# Altium integrated library NXP_60_26022015.IntLib: 1306 symbols (part 18 of 28)
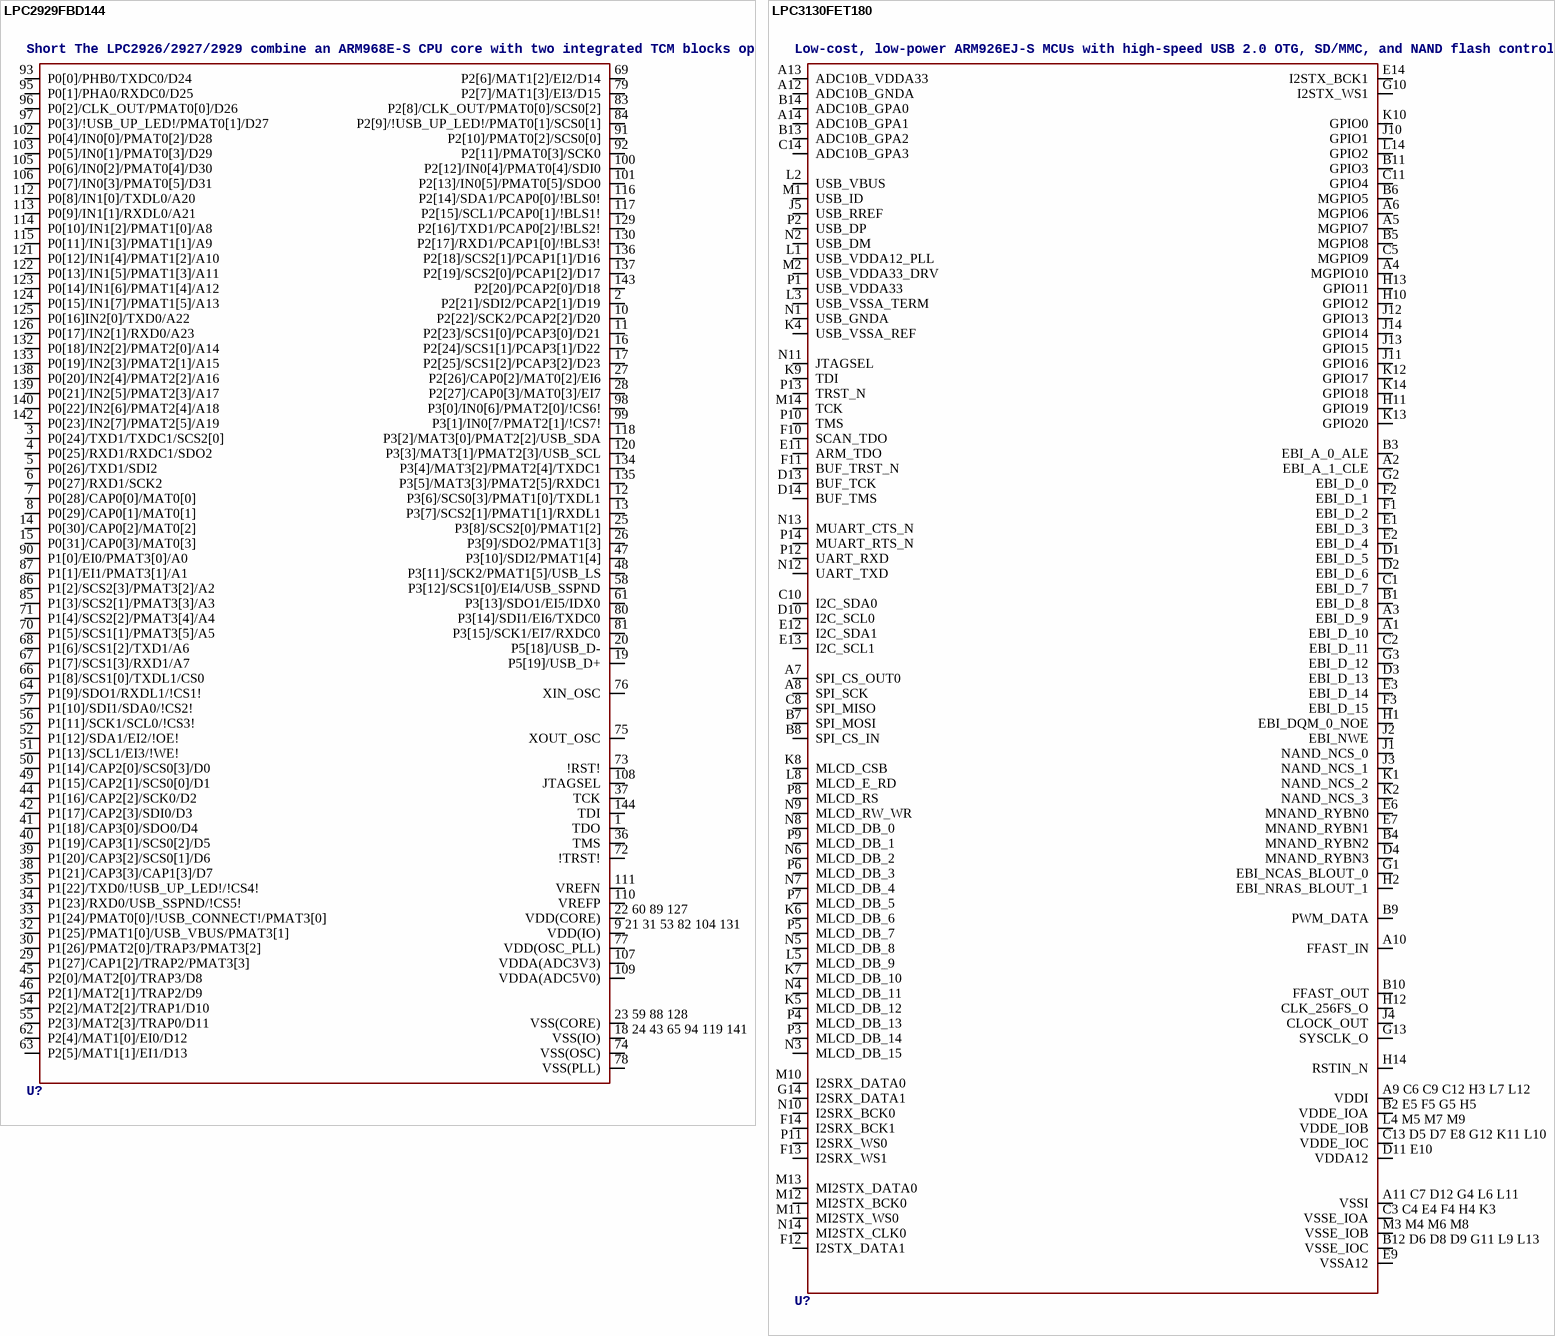
[diagram p202: symbols LPC2929FBD144 to LPC3130FET180]

## LPC2929FBD144
designator U?, comment Short The LPC2926/2927/2929 combine an ARM968E-S CPU core with two integrated TCM blocks operating at frequencies of up to 125 MHz, Full-speed USB 2.0 OTG and device controller, CAN and LIN, 56 kB SRAM, up to 768 kB flash memory, external memory interface, three 10-bit ADCs, and multiple serial and parallel interfaces in a single chip targeted at consumer, industrial and communication markets. To optimize system power consumption, the LPC2926/2927/2929 has a very flexible Clock Generation Unit (CGU) that provides dynamic clock gating and scaling.    AAL Eindhoven MK
FLASH: 768kB; SRAM: 56kB + 2 × 32kB TCM
footprint SOT486-1
pins: 1 TDO, 2 P2[21]/SDI2/PCAP2[1]/D19, 3 P0[24]/TXD1/TXDC1/SCS2[0], 4 P0[25]/RXD1/RXDC1/SDO2, 5 P0[26]/TXD1/SDI2, 6 P0[27]/RXD1/SCK2, 7 P0[28]/CAP0[0]/MAT0[0], 8 P0[29]/CAP0[1]/MAT0[1], 9 21 31 53 82 104 131 VDD(IO), 10 P2[22]/SCK2/PCAP2[2]/D20, 11 P2[23]/SCS1[0]/PCAP3[0]/D21, 12 P3[6]/SCS0[3]/PMAT1[0]/TXDL1, 13 P3[7]/SCS2[1]/PMAT1[1]/RXDL1, 14 P0[30]/CAP0[2]/MAT0[2], 15 P0[31]/CAP0[3]/MAT0[3], 16 P2[24]/SCS1[1]/PCAP3[1]/D22, 17 P2[25]/SCS1[2]/PCAP3[2]/D23, 18 24 43 65 94 119 141 VSS(IO), 19 P5[19]/USB_D+, 20 P5[18]/USB_D-, 22 60 89 127 VDD(CORE), 23 59 88 128 VSS(CORE), 25 P3[8]/SCS2[0]/PMAT1[2], 26 P3[9]/SDO2/PMAT1[3], 27 P2[26]/CAP0[2]/MAT0[2]/EI6, 28 P2[27]/CAP0[3]/MAT0[3]/EI7, 29 P1[27]/CAP1[2]/TRAP2/PMAT3[3], 30 P1[26]/PMAT2[0]/TRAP3/PMAT3[2], 32 P1[25]/PMAT1[0]/USB_VBUS/PMAT3[1], 33 P1[24]/PMAT0[0]/!USB_CONNECT!/PMAT3[0], 34 P1[23]/RXD0/USB_SSPND/!CS5!, 35 P1[22]/TXD0/!USB_UP_LED!/!CS4!, 36 TMS, 37 TCK, 38 P1[21]/CAP3[3]/CAP1[3]/D7, 39 P1[20]/CAP3[2]/SCS0[1]/D6, 40 P1[19]/CAP3[1]/SCS0[2]/D5, 41 P1[18]/CAP3[0]/SDO0/D4, 42 P1[17]/CAP2[3]/SDI0/D3, 44 P1[16]/CAP2[2]/SCK0/D2, 45 P2[0]/MAT2[0]/TRAP3/D8, 46 P2[1]/MAT2[1]/TRAP2/D9, 47 P3[10]/SDI2/PMAT1[4], 48 P3[11]/SCK2/PMAT1[5]/USB_LS, 49 P1[15]/CAP2[1]/SCS0[0]/D1, 50 P1[14]/CAP2[0]/SCS0[3]/D0, 51 P1[13]/SCL1/EI3/!WE!, 52 P1[12]/SDA1/EI2/!OE!, 54 P2[2]/MAT2[2]/TRAP1/D10, 55 P2[3]/MAT2[3]/TRAP0/D11, 56 P1[11]/SCK1/SCL0/!CS3!, 57 P1[10]/SDI1/SDA0/!CS2!, 58 P3[12]/SCS1[0]/EI4/USB_SSPND, 61 P3[13]/SDO1/EI5/IDX0, 62 P2[4]/MAT1[0]/EI0/D12, 63 P2[5]/MAT1[1]/EI1/D13, 64 P1[9]/SDO1/RXDL1/!CS1!, 66 P1[8]/SCS1[0]/TXDL1/CS0, 67 P1[7]/SCS1[3]/RXD1/A7, 68 P1[6]/SCS1[2]/TXD1/A6, 69 P2[6]/MAT1[2]/EI2/D14, 70 P1[5]/SCS1[1]/PMAT3[5]/A5, 71 P1[4]/SCS2[2]/PMAT3[4]/A4, 72 !TRST!, 73 !RST!, 74 VSS(OSC), 75 XOUT_OSC, 76 XIN_OSC, 77 VDD(OSC_PLL), 78 VSS(PLL), 79 P2[7]/MAT1[3]/EI3/D15, 80 P3[14]/SDI1/EI6/TXDC0, 81 P3[15]/SCK1/EI7/RXDC0, 83 P2[8]/CLK_OUT/PMAT0[0]/SCS0[2], 84 P2[9]/!USB_UP_LED!/PMAT0[1]/SCS0[1], 85 P1[3]/SCS2[1]/PMAT3[3]/A3, 86 P1[2]/SCS2[3]/PMAT3[2]/A2, 87 P1[1]/EI1/PMAT3[1]/A1, 90 P1[0]/EI0/PMAT3[0]/A0, 91 P2[10]/PMAT0[2]/SCS0[0], 92 P2[11]/PMAT0[3]/SCK0, 93 P0[0]/PHB0/TXDC0/D24, 95 P0[1]/PHA0/RXDC0/D25, 96 P0[2]/CLK_OUT/PMAT0[0]/D26, 97 P0[3]/!USB_UP_LED!/PMAT0[1]/D27, 98 P3[0]/IN0[6]/PMAT2[0]/!CS6!, 99 P3[1]/IN0[7/PMAT2[1]/!CS7!, 100 P2[12]/IN0[4]/PMAT0[4]/SDI0, 101 P2[13]/IN0[5]/PMAT0[5]/SDO0, 102 P0[4]/IN0[0]/PMAT0[2]/D28, 103 P0[5]/IN0[1]/PMAT0[3]/D29, 105 P0[6]/IN0[2]/PMAT0[4]/D30, 106 P0[7]/IN0[3]/PMAT0[5]/D31, 107 VDDA(ADC3V3), 108 JTAGSEL, 109 VDDA(ADC5V0), 110 VREFP, 111 VREFN, 112 P0[8]/IN1[0]/TXDL0/A20, 113 P0[9]/IN1[1]/RXDL0/A21, 114 P0[10]/IN1[2]/PMAT1[0]/A8, 115 P0[11]/IN1[3]/PMAT1[1]/A9, 116 P2[14]/SDA1/PCAP0[0]/!BLS0!, 117 P2[15]/SCL1/PCAP0[1]/!BLS1!, 118 P3[2]/MAT3[0]/PMAT2[2]/USB_SDA, 120 P3[3]/MAT3[1]/PMAT2[3]/USB_SCL, 121 P0[12]/IN1[4]/PMAT1[2]/A10, 122 P0[13]/IN1[5]/PMAT1[3]/A11, 123 P0[14]/IN1[6]/PMAT1[4]/A12, 124 P0[15]/IN1[7]/PMAT1[5]/A13, 125 P0[16]IN2[0]/TXD0/A22, 126 P0[17]/IN2[1]/RXD0/A23, 129 P2[16]/TXD1/PCAP0[2]/!BLS2!, 130 P2[17]/RXD1/PCAP1[0]/!BLS3!, 132 P0[18]/IN2[2]/PMAT2[0]/A14, 133 P0[19]/IN2[3]/PMAT2[1]/A15, 134 P3[4]/MAT3[2]/PMAT2[4]/TXDC1, 135 P3[5]/MAT3[3]/PMAT2[5]/RXDC1, 136 P2[18]/SCS2[1]/PCAP1[1]/D16, 137 P2[19]/SCS2[0]/PCAP1[2]/D17, 138 P0[20]/IN2[4]/PMAT2[2]/A16, 139 P0[21]/IN2[5]/PMAT2[3]/A17, 140 P0[22]/IN2[6]/PMAT2[4]/A18, 142 P0[23]/IN2[7]/PMAT2[5]/A19, 143 P2[20]/PCAP2[0]/D18, 144 TDI

## LPC3130FET180
designator U?, comment Low-cost, low-power ARM926EJ-S MCUs with high-speed USB 2.0 OTG, SD/MMC, and NAND flash controller The NXP LPC3130/3131 combine an 180 MHz ARM926EJ-S CPU core, high-speed USB 2.0 On-The-Go (OTG), up to 192 KB SRAM, NAND flash controller, flexible external bus interface, four channel 10-bit ADC, and a myriad of serial and parallel interfaces in a single chip targeted at consumer, industrial, medical, and communication markets. To optimize system power consumption, the LPC3130/3131 have multiple power domains and a very flexible Clock Generation Unit (CGU) that provides dynamic clock gating and scaling.    AAL Eindhoven MK
SRAM: 96kB
footprint SOT570-2
pins: A1 EBI_D_10, A2 EBI_A_1_CLE, A3 EBI_D_9, A4 MGPIO10, A5 MGPIO7, A6 MGPIO6, A7 SPI_CS_OUT0, A8 SPI_SCK, A9 C6 C9 C12 H3 L7 L12 VDDI, A10 FFAST_IN, A11 C7 D12 G4 L6 L11 VSSI, A12 ADC10B_GNDA, A13 ADC10B_VDDA33, A14 ADC10B_GPA1, B1 EBI_D_8, B2 E5 F5 G5 H5 VDDE_IOA, B3 EBI_A_0_ALE, B4 MNAND_RYBN2, B5 MGPIO8, B6 MGPIO5, B7 SPI_MOSI, B8 SPI_CS_IN, B9 PWM_DATA, B10 FFAST_OUT, B11 GPIO3, B12 D6 D8 D9 G11 L9 L13 VSSE_IOC, B13 ADC10B_GPA2, B14 ADC10B_GPA0, C1 EBI_D_7, C2 EBI_D_11, C3 C4 E4 F4 H4 K3 VSSE_IOA, C5 MGPIO9, C8 SPI_MISO, C10 I2C_SDA0, C11 GPIO4, C13 D5 D7 E8 G12 K11 L10 VDDE_IOC, C14 ADC10B_GPA3, D1 EBI_D_5, D2 EBI_D_6, D3 EBI_D_13, D4 MNAND_RYBN3, D10 I2C_SCL0, D11 E10 VDDA12, D13 BUF_TCK, D14 BUF_TMS, E1 EBI_D_3, E2 EBI_D_4, E3 EBI_D_14, E6 MNAND_RYBN0, E7 MNAND_RYBN1, E9 VSSA12, E11 ARM_TDO, E12 I2C_SDA1, E13 I2C_SCL1, E14 I2STX_BCK1, F1 EBI_D_2, F2 EBI_D_1, F3 EBI_D_15, F10 SCAN_TDO, F11 BUF_TRST_N, F12 I2STX_DATA1, F13 I2SRX_WS1, F14 I2SRX_BCK1, G1 EBI_NCAS_BLOUT_0, G2 EBI_D_0, G3 EBI_D_12, G10 I2STX_WS1, G13 SYSCLK_O, G14 I2SRX_DATA1, H1 EBI_DQM_0_NOE, H2 EBI_NRAS_BLOUT_1, H10 GPIO12, H11 GPIO19, H12 CLK_256FS_O, H13 GPIO11, H14 RSTIN_N, J1 NAND_NCS_0, J2 EBI_NWE, J3 NAND_NCS_1, J4 CLOCK_OUT, J5 USB_RREF, J10 GPIO1, J11 GPIO16, J12 GPIO13, J13 GPIO15, J14 GPIO14, K1 NAND_NCS_2, K2 NAND_NCS_3, K4 USB_VSSA_REF, K5 MLCD_DB_12, K6 MLCD_DB_6, K7 MLCD_DB_10, K8 MLCD_CSB, K9 TDI, K10 GPIO0, K12 GPIO17, K13 GPIO20, K14 GPIO18, L1 USB_VDDA12_PLL, L2 USB_VBUS, L3 USB_VSSA_TERM, L4 M5 M7 M9 VDDE_IOB, L5 MLCD_DB_9, L8 MLCD_E_RD, L14 GPIO2, M1 USB_ID, M2 USB_VDDA33_DRV, M3 M4 M6 M8 VSSE_IOB, M10 I2SRX_DATA0, M11 MI2STX_WS0, M12 MI2STX_BCK0, M13 MI2STX_DATA0, M14 TCK, N1 USB_GNDA, N2 USB_DM, N3 MLCD_DB_15, N4 MLCD_DB_11, N5 MLCD_DB_8, N6 MLCD_DB_2, N7 MLCD_DB_4, N8 MLCD_DB_0, N9 MLCD_RW_WR, N10 I2SRX_BCK0, N11 JTAGSEL, N12 UART_TXD, N13 MUART_CTS_N, N14 MI2STX_CLK0, P1 USB_VDDA33, P2 USB_DP, P3 MLCD_DB_14, P4 MLCD_DB_13, P5 MLCD_DB_7, P6 MLCD_DB_3, P7 MLCD_DB_5, P8 MLCD_RS, P9 MLCD_DB_1, P10 TMS, P11 I2SRX_WS0, P12 UART_RXD, P13 TRST_N, P14 MUART_RTS_N

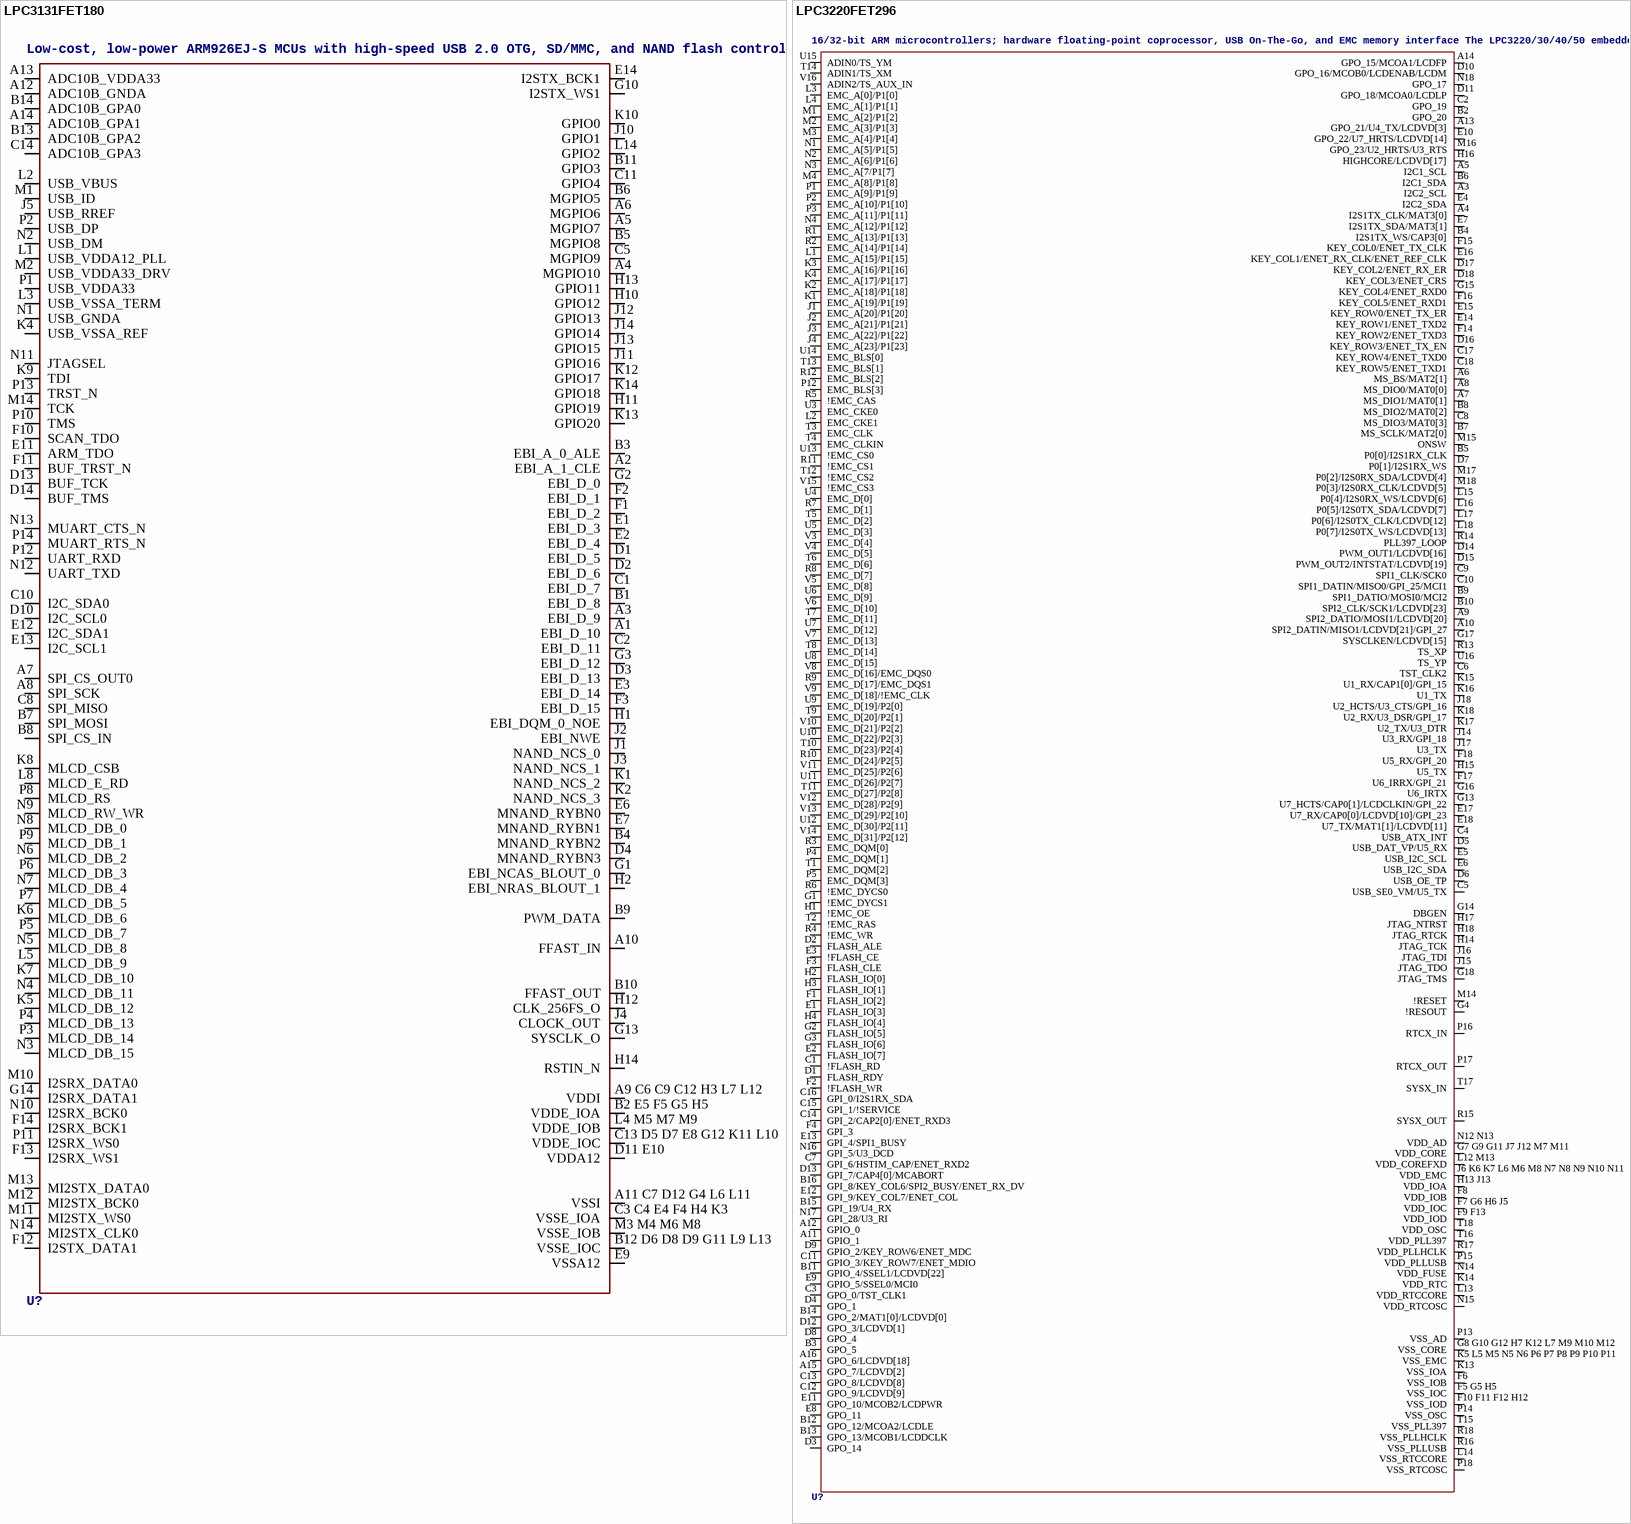
[diagram p115: symbols LPC3131FET180 to LPC3220FET296]

## LPC3131FET180
designator U?, comment Low-cost, low-power ARM926EJ-S MCUs with high-speed USB 2.0 OTG, SD/MMC, and NAND flash controller The NXP LPC3130/3131 combine an 180 MHz ARM926EJ-S CPU core, high-speed USB 2.0 On-The-Go (OTG), up to 192 KB SRAM, NAND flash controller, flexible external bus interface, four channel 10-bit ADC, and a myriad of serial and parallel interfaces in a single chip targeted at consumer, industrial, medical, and communication markets. To optimize system power consumption, the LPC3130/3131 have multiple power domains and a very flexible Clock Generation Unit (CGU) that provides dynamic clock gating and scaling.    AAL Eindhoven MK
SRAM: 192kB
footprint SOT570-2
pins: A1 EBI_D_10, A2 EBI_A_1_CLE, A3 EBI_D_9, A4 MGPIO10, A5 MGPIO7, A6 MGPIO6, A7 SPI_CS_OUT0, A8 SPI_SCK, A9 C6 C9 C12 H3 L7 L12 VDDI, A10 FFAST_IN, A11 C7 D12 G4 L6 L11 VSSI, A12 ADC10B_GNDA, A13 ADC10B_VDDA33, A14 ADC10B_GPA1, B1 EBI_D_8, B2 E5 F5 G5 H5 VDDE_IOA, B3 EBI_A_0_ALE, B4 MNAND_RYBN2, B5 MGPIO8, B6 MGPIO5, B7 SPI_MOSI, B8 SPI_CS_IN, B9 PWM_DATA, B10 FFAST_OUT, B11 GPIO3, B12 D6 D8 D9 G11 L9 L13 VSSE_IOC, B13 ADC10B_GPA2, B14 ADC10B_GPA0, C1 EBI_D_7, C2 EBI_D_11, C3 C4 E4 F4 H4 K3 VSSE_IOA, C5 MGPIO9, C8 SPI_MISO, C10 I2C_SDA0, C11 GPIO4, C13 D5 D7 E8 G12 K11 L10 VDDE_IOC, C14 ADC10B_GPA3, D1 EBI_D_5, D2 EBI_D_6, D3 EBI_D_13, D4 MNAND_RYBN3, D10 I2C_SCL0, D11 E10 VDDA12, D13 BUF_TCK, D14 BUF_TMS, E1 EBI_D_3, E2 EBI_D_4, E3 EBI_D_14, E6 MNAND_RYBN0, E7 MNAND_RYBN1, E9 VSSA12, E11 ARM_TDO, E12 I2C_SDA1, E13 I2C_SCL1, E14 I2STX_BCK1, F1 EBI_D_2, F2 EBI_D_1, F3 EBI_D_15, F10 SCAN_TDO, F11 BUF_TRST_N, F12 I2STX_DATA1, F13 I2SRX_WS1, F14 I2SRX_BCK1, G1 EBI_NCAS_BLOUT_0, G2 EBI_D_0, G3 EBI_D_12, G10 I2STX_WS1, G13 SYSCLK_O, G14 I2SRX_DATA1, H1 EBI_DQM_0_NOE, H2 EBI_NRAS_BLOUT_1, H10 GPIO12, H11 GPIO19, H12 CLK_256FS_O, H13 GPIO11, H14 RSTIN_N, J1 NAND_NCS_0, J2 EBI_NWE, J3 NAND_NCS_1, J4 CLOCK_OUT, J5 USB_RREF, J10 GPIO1, J11 GPIO16, J12 GPIO13, J13 GPIO15, J14 GPIO14, K1 NAND_NCS_2, K2 NAND_NCS_3, K4 USB_VSSA_REF, K5 MLCD_DB_12, K6 MLCD_DB_6, K7 MLCD_DB_10, K8 MLCD_CSB, K9 TDI, K10 GPIO0, K12 GPIO17, K13 GPIO20, K14 GPIO18, L1 USB_VDDA12_PLL, L2 USB_VBUS, L3 USB_VSSA_TERM, L4 M5 M7 M9 VDDE_IOB, L5 MLCD_DB_9, L8 MLCD_E_RD, L14 GPIO2, M1 USB_ID, M2 USB_VDDA33_DRV, M3 M4 M6 M8 VSSE_IOB, M10 I2SRX_DATA0, M11 MI2STX_WS0, M12 MI2STX_BCK0, M13 MI2STX_DATA0, M14 TCK, N1 USB_GNDA, N2 USB_DM, N3 MLCD_DB_15, N4 MLCD_DB_11, N5 MLCD_DB_8, N6 MLCD_DB_2, N7 MLCD_DB_4, N8 MLCD_DB_0, N9 MLCD_RW_WR, N10 I2SRX_BCK0, N11 JTAGSEL, N12 UART_TXD, N13 MUART_CTS_N, N14 MI2STX_CLK0, P1 USB_VDDA33, P2 USB_DP, P3 MLCD_DB_14, P4 MLCD_DB_13, P5 MLCD_DB_7, P6 MLCD_DB_3, P7 MLCD_DB_5, P8 MLCD_RS, P9 MLCD_DB_1, P10 TMS, P11 I2SRX_WS0, P12 UART_RXD, P13 TRST_N, P14 MUART_RTS_N

## LPC3220FET296
designator U?, comment 16/32-bit ARM microcontrollers; hardware floating-point coprocessor, USB On-The-Go, and EMC memory interface The LPC3220/30/40/50 embedded microcontrollers were designed for low power, high performance applications. NXP achieved their performance goals using a 90 nanometer process to implement an ARM926EJ-S CPU core with a vector floating point co-processor and a large set of standard peripherals including USB On-The-Go. The LPC3220/30/40/50 operates at CPU frequencies of up to 266 MHz. The NXP implementation uses a ARM926EJ-S CPU core with a Harvard architecture, 5-stage pipeline, and an integral Memory Management Unit (MMU). The MMU provides the virtual memory capabilities needed to support the multi-programming demands of modern operating systems. The ARM926EJ-S also has a hardware based set of DSP instruction extensions, which includes single cycle MAC operations, and hardware based native Jazelle Java Byte-code execution. The NXP implementation has a 32 kB instruction cache and a 32 kB data cache. For low power consumption, the LPC3220/30/40/50 takes advantage of NXP’s advanced technology development to optimize intrinsic power and uses software controlled architectural enhancements to optimize application based power management. The LPC3220/30/40/50 also includes 256 kB of on-chip static RAM, a NAND flash interface, an Ethernet MAC, an LCD controller that supports STN and TFT panels, and an external bus interface that supports SDR and DDR SDRAM as well as static devices. In addition, the LPC3220/30/40/50 includes a USB 2.0 full-speed interface, seven UARTs, two I2C-bus interfaces, two SPI/SSP ports, two I2S-bus interfaces, two single output PWMs, a motor control PWM, six general purpose timers with capture inputs and compare outputs, a Secure Digital (SD) interface, and a 10-bit Analog-to-Digital Converter (ADC) with a touch screen sense option.    AAL Eindhoven MK
ETHERNET: no; SRAM: 128kB; LCD: no
footprint SOT1048-1
pins: A3 I2C2_SCL, A4 I2S1TX_CLK/MAT3[0], A5 I2C1_SCL, A6 MS_BS/MAT2[1], A7 MS_DIO1/MAT0[1], A8 MS_DIO0/MAT0[0], A9 SPI2_DATIO/MOSI1/LCDVD[20], A10 SPI2_DATIN/MISO1/LCDVD[21]/GPI_27, A11 GPIO_1, A12 GPIO_0, A13 GPO_21/U4_TX/LCDVD[3], A14 GPO_15/MCOA1/LCDFP, A15 GPO_7/LCDVD[2], A16 GPO_6/LCDVD[18], B2 GPO_20, B3 GPO_5, B4 I2S1TX_WS/CAP3[0], B5 P0[0]/I2S1RX_CLK, B6 I2C1_SDA, B7 MS_SCLK/MAT2[0], B8 MS_DIO2/MAT0[2], B9 SPI1_DATIO/MOSI0/MCI2, B10 SPI2_CLK/SCK1/LCDVD[23], B11 GPIO_4/SSEL1/LCDVD[22], B12 GPO_12/MCOA2/LCDLE, B13 GPO_13/MCOB1/LCDDCLK, B14 GPO_2/MAT1[0]/LCDVD[0], B15 GPI_19/U4_RX, B16 GPI_8/KEY_COL6/SPI2_BUSY/ENET_RX_DV, C1 !FLASH_RD, C2 GPO_19, C3 GPO_0/TST_CLK1, C4 USB_ATX_INT, C5 USB_SE0_VM/U5_TX, C6 TST_CLK2, C7 GPI_6/HSTIM_CAP/ENET_RXD2, C8 MS_DIO3/MAT0[3], C9 SPI1_CLK/SCK0, C10 SPI1_DATIN/MISO0/GPI_25/MCI1, C11 GPIO_3/KEY_ROW7/ENET_MDIO, C12 GPO_9/LCDVD[9], C13 GPO_8/LCDVD[8], C14 GPI_2/CAP2[0]/ENET_RXD3, C15 GPI_1/!SERVICE, C16 GPI_0/I2S1RX_SDA, C17 KEY_ROW4/ENET_TXD0, C18 KEY_ROW5/ENET_TXD1, D1 FLASH_RDY, D2 FLASH_ALE, D3 GPO_14, D4 GPO_1, D5 USB_DAT_VP/U5_RX, D6 USB_OE_TP, D7 P0[1]/I2S1RX_WS, D8 GPO_4, D9 GPIO_2/KEY_ROW6/ENET_MDC, D10 GPO_16/MCOB0/LCDENAB/LCDM, D11 GPO_18/MCOA0/LCDLP, D12 GPO_3/LCDVD[1], D13 GPI_7/CAP4[0]/MCABORT, D14 PWM_OUT1/LCDVD[16], D15 PWM_OUT2/INTSTAT/LCDVD[19], D16 KEY_ROW3/ENET_TX_EN, D17 KEY_COL2/ENET_RX_ER, D18 KEY_COL3/ENET_CRS, E1 FLASH_IO[3], E2 FLASH_IO[7], E3 !FLASH_CE, E4 I2C2_SDA, E5 USB_I2C_SCL, E6 USB_I2C_SDA, E7 I2S1TX_SDA/MAT3[1], E8 GPO_11, E9 GPIO_5/SSEL0/MCI0, E10 GPO_22/U7_HRTS/LCDVD[14], E11 GPO_10/MCOB2/LCDPWR, E12 GPI_9/KEY_COL7/ENET_COL, E13 GPI_4/SPI1_BUSY, E14 KEY_ROW1/ENET_TXD2, E15 KEY_ROW0/ENET_TX_ER, E16 KEY_COL1/ENET_RX_CLK/ENET_REF_CLK, E17 U7_RX/CAP0[0]/LCDVD[10]/GPI_23, E18 U7_TX/MAT1[1]/LCDVD[11], F1 FLASH_IO[2], F2 !FLASH_WR, F3 FLASH_CLE, F4 GPI_3, F5 G5 H5 VSS_IOC, F6 VSS_IOB, F7 G6 H6 J5 VDD_IOC, F8 VDD_IOB, F9 F13 VDD_IOD, F10 F11 F12 H12 VSS_IOD, F14 KEY_ROW2/ENET_TXD3, F15 KEY_COL0/ENET_TX_CLK, F16 KEY_COL5/ENET_RXD1, F17 U6_IRRX/GPI_21, F18 U5_RX/GPI_20, G1 !EMC_DYCS1, G2 FLASH_IO[5], G3 FLASH_IO[6], G4 !RESOUT, G7 G9 G11 J7 J12 M7 M11 VDD_CORE, G8 G10 G12 H7 K12 L7 M9 M10 M12 VSS_CORE, G13 U7_HCTS/CAP0[1]/LCDCLKIN/GPI_22, G14 DBGEN, G15 KEY_COL4/ENET_RXD0, G16 U6_IRTX, G17 SYSCLKEN/LCDVD[15], G18 JTAG_TMS, H1 !EMC_OE, H2 FLASH_IO[0], H3 FLASH_IO[1], H4 FLASH_IO[4], H13 J13 VDD_IOA, H14 JTAG_TCK, H15 U5_TX, H16 HIGHCORE/LCDVD[17], H17 JTAG_NTRST, H18 JTAG_RTCK, J1 EMC_A[20]/P1[20], J2 EMC_A[21]/P1[21], J3 EMC_A[22]/P1[22], J4 EMC_A[23]/P1[23], J6 K6 K7 L6 M6 M8 N7 N8 N9 N10 N11 VDD_EMC, J14 U3_RX/GPI_18, J15 JTAG_TDO, J16 JTAG_TDI, J17 U3_TX, J18 U2_HCTS/U3_CTS/GPI_16, K1 EMC_A[19]/P1[19], K2 EMC_A[18]/P1[18], K3 EMC_A[16]/P1[16], K4 EMC_A[17]/P1[17], K5 L5 M5 N5 N6 P6 P7 P8 P9 P10 P11 VSS_EMC, K13 VSS_IOA, K14 VDD_RTC, K15 U1_RX/CAP1[0]/GPI_15, K16 U1_TX, K17 U2_TX/U3_DTR, K18 U2_RX/U3_DSR/GPI_17, L1 EMC_A[15]/P1[15], L2 EMC_CKE1, L3 EMC_A[0]/P1[0], L4 EMC_A[1]/P1[1], L12 M13 VDD_COREFXD, L13 VDD_RTCCORE, L14 VSS_RTCCORE, L15 P0[4]/I2S0RX_WS/LCDVD[6], L16 P0[5]/I2S0TX_SDA/LCDVD[7], L17 P0[6]/I2S0TX_CLK/LCDVD[12], L18 P0[7]/I2S0TX_WS/LCDVD[13], M1 EMC_A[2]/P1[2], M2 EMC_A[3]/P1[3], M3 EMC_A[4]/P1[4], M4 EMC_A[8]/P1[8], M14 !RESET, M15 ONSW, M16 GPO_23/U2_HRTS/U3_RTS, M17 P0[2]/I2S0RX_SDA/LCDVD[4], M18 P0[3]/I2S0RX_CLK/LCDVD[5], N1 EMC_A[5]/P1[5], N2 EMC_A[6]/P1[6], N3 EMC_A[7/P1[7], N4 EMC_A[12]/P1[12], N12 N13 VDD_AD, N14 VDD_FUSE, N15 VDD_RTCOSC, N16 GPI_5/U3_DCD, N17 GPI_28/U3_RI, N18 GPO_17, P1 EMC_A[9]/P1[9], P2 EMC_A[10]/P1[10], P3 EMC_A[11]/P1[11], P4 EMC_DQM[1], P5 EMC_DQM[3], P12 EMC_BLS[3], P13 VSS_AD, P14 VSS_OSC, P15 VDD_PLLUSB, P16 RTCX_IN, P17 RTCX_OUT, P18 VSS_RTCOSC, R1 EMC_A[13]/P1[13], R2 EMC_A[14]/P1[14], R3 EMC_DQM[0], R4 !EMC_WR, R5 !EMC_CAS, R6 !EMC_DYCS0, R7 EMC_D[1], R8 EMC_D[7], R9 EMC_D[17]/EMC_DQS1, R10 EMC_D[24]/P2[5], R11 !EMC_CS1, R12 EMC_BLS[2], R13 TS_XP, R14 PLL397_LOOP, R15 SYSX_OUT, R16 VSS_PLLUSB, R17 VDD_PLLHCLK, R18 VSS_PLLHCLK, T1 EMC_DQM[2], T2 !EMC_RAS, T3 EMC_CLK, T4 EMC_CLKIN, T5 EMC_D[2], T6 EMC_D[6], T7 EMC_D[11], T8 EMC_D[14], T9 EMC_D[20]/P2[1], T10 EMC_D[23]/P2[4], T11 EMC_D[27]/P2[8], T12 !EMC_CS2, T13 EMC_BLS[1], T14 ADIN1/TS_XM, T15 VSS_PLL397, T16 VDD_PLL397, T17 SYSX_IN, T18 VDD_OSC, U3 EMC_CKE0, U4 EMC_D[0], U5 EMC_D[3], U6 EMC_D[9], U7 EMC_D[12], U8 EMC_D[15], U9 EMC_D[19]/P2[0], U10 EMC_D[22]/P2[3], U11 EMC_D[26]/P2[7], U12 EMC_D[30]/P2[11], U13 !EMC_CS0, U14 EMC_BLS[0], U15 ADIN0/TS_YM, U16 TS_YP, V3 EMC_D[4], V4 EMC_D[5], V5 EMC_D[8], V6 EMC_D[10], V7 EMC_D[13], V8 EMC_D[16]/EMC_DQS0, V9 EMC_D[18]/!EMC_CLK, V10 EMC_D[21]/P2[2], V11 EMC_D[25]/P2[6], V12 EMC_D[28]/P2[9], V13 EMC_D[29]/P2[10], V14 EMC_D[31]/P2[12], V15 !EMC_CS3, V16 ADIN2/TS_AUX_IN

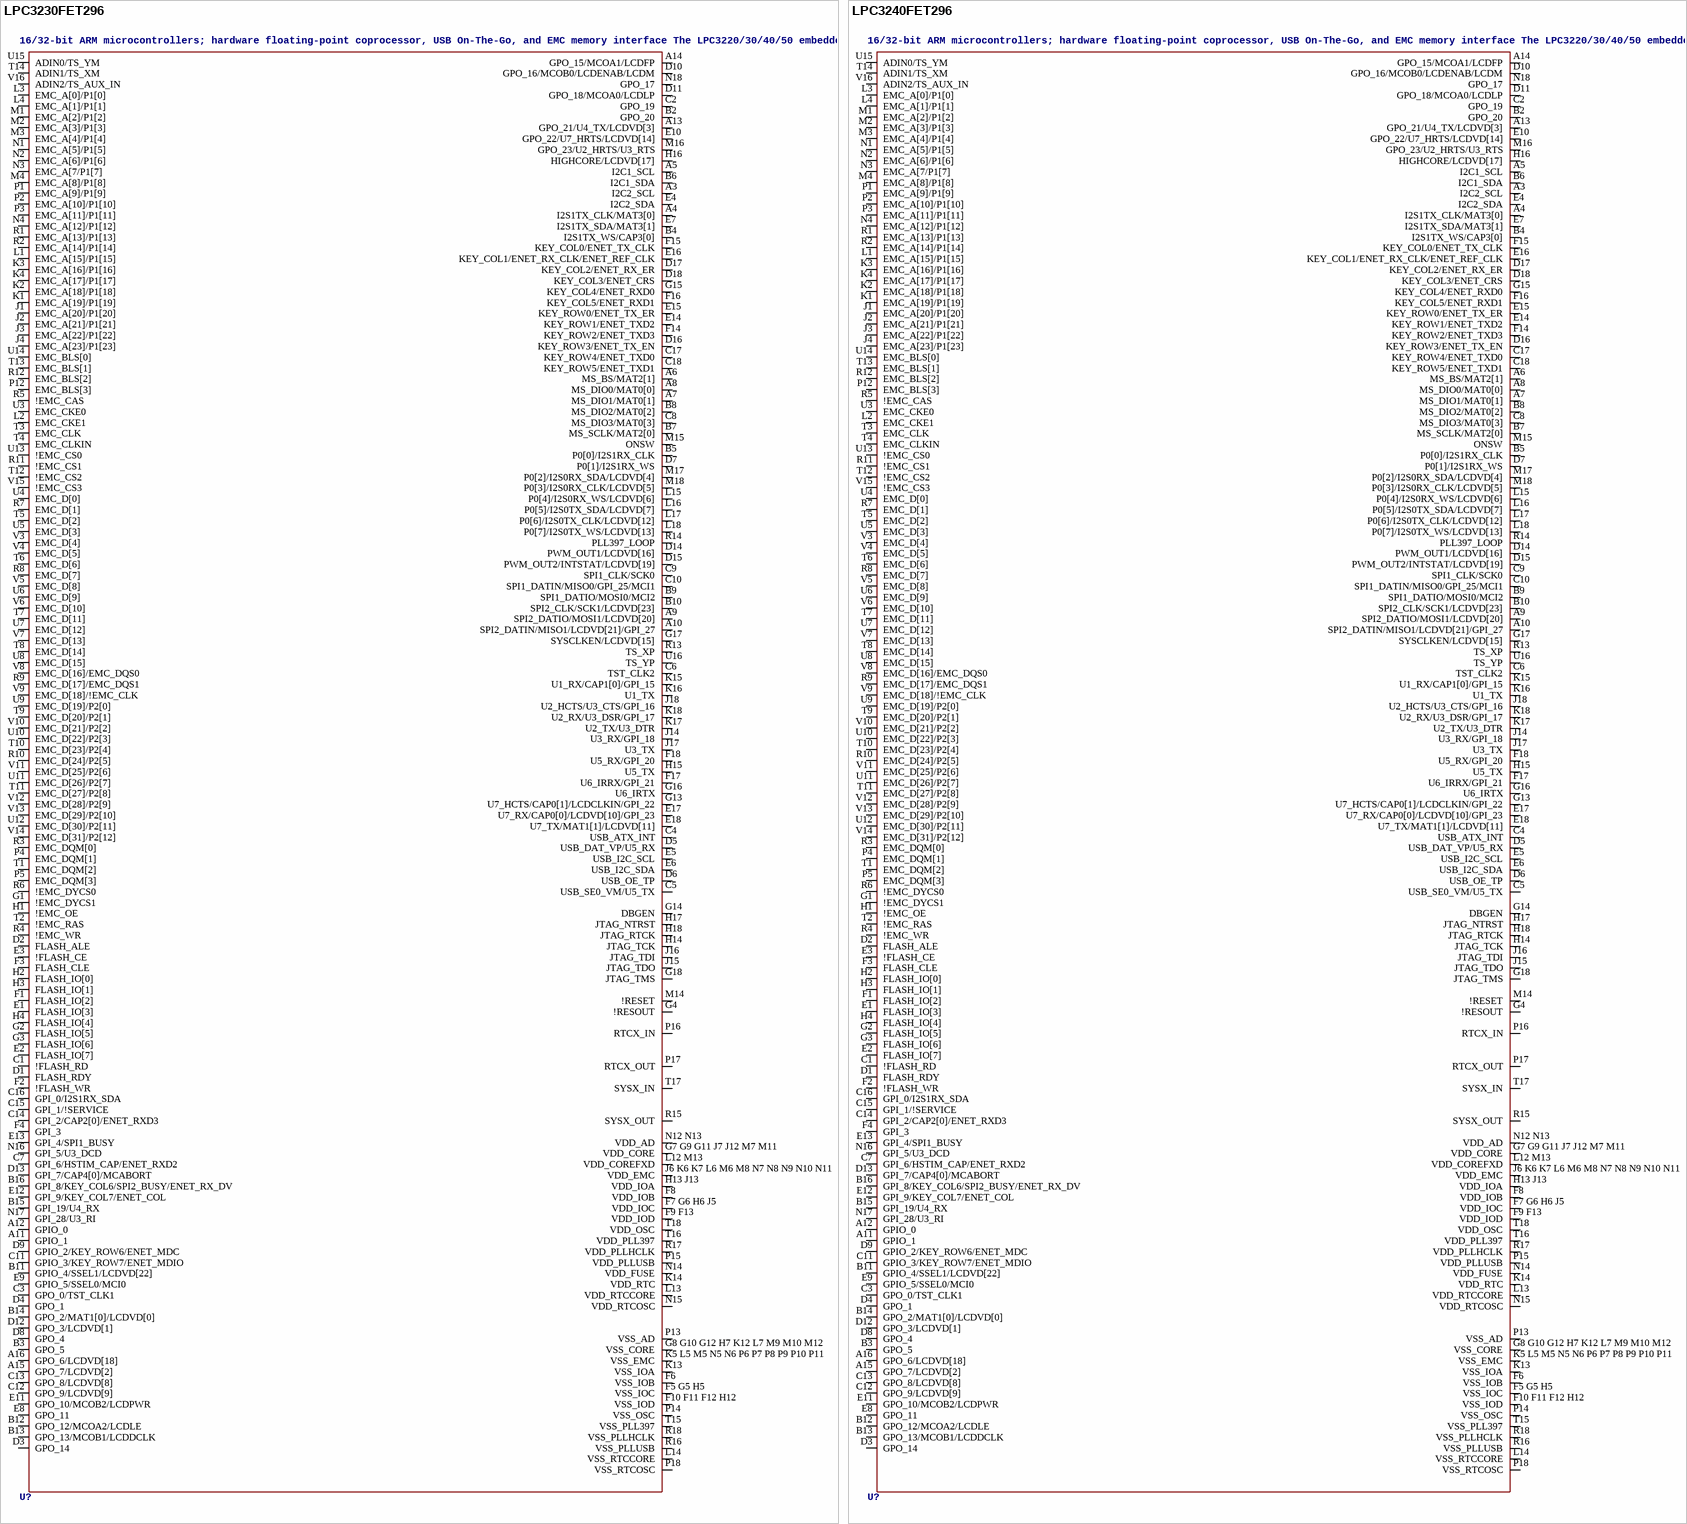
[diagram p116: symbols LPC3230FET296 to LPC3240FET296]

## LPC3230FET296
designator U?, comment 16/32-bit ARM microcontrollers; hardware floating-point coprocessor, USB On-The-Go, and EMC memory interface The LPC3220/30/40/50 embedded microcontrollers were designed for low power, high performance applications. NXP achieved their performance goals using a 90 nanometer process to implement an ARM926EJ-S CPU core with a vector floating point co-processor and a large set of standard peripherals including USB On-The-Go. The LPC3220/30/40/50 operates at CPU frequencies of up to 266 MHz. The NXP implementation uses a ARM926EJ-S CPU core with a Harvard architecture, 5-stage pipeline, and an integral Memory Management Unit (MMU). The MMU provides the virtual memory capabilities needed to support the multi-programming demands of modern operating systems. The ARM926EJ-S also has a hardware based set of DSP instruction extensions, which includes single cycle MAC operations, and hardware based native Jazelle Java Byte-code execution. The NXP implementation has a 32 kB instruction cache and a 32 kB data cache. For low power consumption, the LPC3220/30/40/50 takes advantage of NXP’s advanced technology development to optimize intrinsic power and uses software controlled architectural enhancements to optimize application based power management. The LPC3220/30/40/50 also includes 256 kB of on-chip static RAM, a NAND flash interface, an Ethernet MAC, an LCD controller that supports STN and TFT panels, and an external bus interface that supports SDR and DDR SDRAM as well as static devices. In addition, the LPC3220/30/40/50 includes a USB 2.0 full-speed interface, seven UARTs, two I2C-bus interfaces, two SPI/SSP ports, two I2S-bus interfaces, two single output PWMs, a motor control PWM, six general purpose timers with capture inputs and compare outputs, a Secure Digital (SD) interface, and a 10-bit Analog-to-Digital Converter (ADC) with a touch screen sense option.    AAL Eindhoven MK
ETHERNET: no; LCD: yes; SRAM: 256kB
footprint SOT1048-1
pins: A3 I2C2_SCL, A4 I2S1TX_CLK/MAT3[0], A5 I2C1_SCL, A6 MS_BS/MAT2[1], A7 MS_DIO1/MAT0[1], A8 MS_DIO0/MAT0[0], A9 SPI2_DATIO/MOSI1/LCDVD[20], A10 SPI2_DATIN/MISO1/LCDVD[21]/GPI_27, A11 GPIO_1, A12 GPIO_0, A13 GPO_21/U4_TX/LCDVD[3], A14 GPO_15/MCOA1/LCDFP, A15 GPO_7/LCDVD[2], A16 GPO_6/LCDVD[18], B2 GPO_20, B3 GPO_5, B4 I2S1TX_WS/CAP3[0], B5 P0[0]/I2S1RX_CLK, B6 I2C1_SDA, B7 MS_SCLK/MAT2[0], B8 MS_DIO2/MAT0[2], B9 SPI1_DATIO/MOSI0/MCI2, B10 SPI2_CLK/SCK1/LCDVD[23], B11 GPIO_4/SSEL1/LCDVD[22], B12 GPO_12/MCOA2/LCDLE, B13 GPO_13/MCOB1/LCDDCLK, B14 GPO_2/MAT1[0]/LCDVD[0], B15 GPI_19/U4_RX, B16 GPI_8/KEY_COL6/SPI2_BUSY/ENET_RX_DV, C1 !FLASH_RD, C2 GPO_19, C3 GPO_0/TST_CLK1, C4 USB_ATX_INT, C5 USB_SE0_VM/U5_TX, C6 TST_CLK2, C7 GPI_6/HSTIM_CAP/ENET_RXD2, C8 MS_DIO3/MAT0[3], C9 SPI1_CLK/SCK0, C10 SPI1_DATIN/MISO0/GPI_25/MCI1, C11 GPIO_3/KEY_ROW7/ENET_MDIO, C12 GPO_9/LCDVD[9], C13 GPO_8/LCDVD[8], C14 GPI_2/CAP2[0]/ENET_RXD3, C15 GPI_1/!SERVICE, C16 GPI_0/I2S1RX_SDA, C17 KEY_ROW4/ENET_TXD0, C18 KEY_ROW5/ENET_TXD1, D1 FLASH_RDY, D2 FLASH_ALE, D3 GPO_14, D4 GPO_1, D5 USB_DAT_VP/U5_RX, D6 USB_OE_TP, D7 P0[1]/I2S1RX_WS, D8 GPO_4, D9 GPIO_2/KEY_ROW6/ENET_MDC, D10 GPO_16/MCOB0/LCDENAB/LCDM, D11 GPO_18/MCOA0/LCDLP, D12 GPO_3/LCDVD[1], D13 GPI_7/CAP4[0]/MCABORT, D14 PWM_OUT1/LCDVD[16], D15 PWM_OUT2/INTSTAT/LCDVD[19], D16 KEY_ROW3/ENET_TX_EN, D17 KEY_COL2/ENET_RX_ER, D18 KEY_COL3/ENET_CRS, E1 FLASH_IO[3], E2 FLASH_IO[7], E3 !FLASH_CE, E4 I2C2_SDA, E5 USB_I2C_SCL, E6 USB_I2C_SDA, E7 I2S1TX_SDA/MAT3[1], E8 GPO_11, E9 GPIO_5/SSEL0/MCI0, E10 GPO_22/U7_HRTS/LCDVD[14], E11 GPO_10/MCOB2/LCDPWR, E12 GPI_9/KEY_COL7/ENET_COL, E13 GPI_4/SPI1_BUSY, E14 KEY_ROW1/ENET_TXD2, E15 KEY_ROW0/ENET_TX_ER, E16 KEY_COL1/ENET_RX_CLK/ENET_REF_CLK, E17 U7_RX/CAP0[0]/LCDVD[10]/GPI_23, E18 U7_TX/MAT1[1]/LCDVD[11], F1 FLASH_IO[2], F2 !FLASH_WR, F3 FLASH_CLE, F4 GPI_3, F5 G5 H5 VSS_IOC, F6 VSS_IOB, F7 G6 H6 J5 VDD_IOC, F8 VDD_IOB, F9 F13 VDD_IOD, F10 F11 F12 H12 VSS_IOD, F14 KEY_ROW2/ENET_TXD3, F15 KEY_COL0/ENET_TX_CLK, F16 KEY_COL5/ENET_RXD1, F17 U6_IRRX/GPI_21, F18 U5_RX/GPI_20, G1 !EMC_DYCS1, G2 FLASH_IO[5], G3 FLASH_IO[6], G4 !RESOUT, G7 G9 G11 J7 J12 M7 M11 VDD_CORE, G8 G10 G12 H7 K12 L7 M9 M10 M12 VSS_CORE, G13 U7_HCTS/CAP0[1]/LCDCLKIN/GPI_22, G14 DBGEN, G15 KEY_COL4/ENET_RXD0, G16 U6_IRTX, G17 SYSCLKEN/LCDVD[15], G18 JTAG_TMS, H1 !EMC_OE, H2 FLASH_IO[0], H3 FLASH_IO[1], H4 FLASH_IO[4], H13 J13 VDD_IOA, H14 JTAG_TCK, H15 U5_TX, H16 HIGHCORE/LCDVD[17], H17 JTAG_NTRST, H18 JTAG_RTCK, J1 EMC_A[20]/P1[20], J2 EMC_A[21]/P1[21], J3 EMC_A[22]/P1[22], J4 EMC_A[23]/P1[23], J6 K6 K7 L6 M6 M8 N7 N8 N9 N10 N11 VDD_EMC, J14 U3_RX/GPI_18, J15 JTAG_TDO, J16 JTAG_TDI, J17 U3_TX, J18 U2_HCTS/U3_CTS/GPI_16, K1 EMC_A[19]/P1[19], K2 EMC_A[18]/P1[18], K3 EMC_A[16]/P1[16], K4 EMC_A[17]/P1[17], K5 L5 M5 N5 N6 P6 P7 P8 P9 P10 P11 VSS_EMC, K13 VSS_IOA, K14 VDD_RTC, K15 U1_RX/CAP1[0]/GPI_15, K16 U1_TX, K17 U2_TX/U3_DTR, K18 U2_RX/U3_DSR/GPI_17, L1 EMC_A[15]/P1[15], L2 EMC_CKE1, L3 EMC_A[0]/P1[0], L4 EMC_A[1]/P1[1], L12 M13 VDD_COREFXD, L13 VDD_RTCCORE, L14 VSS_RTCCORE, L15 P0[4]/I2S0RX_WS/LCDVD[6], L16 P0[5]/I2S0TX_SDA/LCDVD[7], L17 P0[6]/I2S0TX_CLK/LCDVD[12], L18 P0[7]/I2S0TX_WS/LCDVD[13], M1 EMC_A[2]/P1[2], M2 EMC_A[3]/P1[3], M3 EMC_A[4]/P1[4], M4 EMC_A[8]/P1[8], M14 !RESET, M15 ONSW, M16 GPO_23/U2_HRTS/U3_RTS, M17 P0[2]/I2S0RX_SDA/LCDVD[4], M18 P0[3]/I2S0RX_CLK/LCDVD[5], N1 EMC_A[5]/P1[5], N2 EMC_A[6]/P1[6], N3 EMC_A[7/P1[7], N4 EMC_A[12]/P1[12], N12 N13 VDD_AD, N14 VDD_FUSE, N15 VDD_RTCOSC, N16 GPI_5/U3_DCD, N17 GPI_28/U3_RI, N18 GPO_17, P1 EMC_A[9]/P1[9], P2 EMC_A[10]/P1[10], P3 EMC_A[11]/P1[11], P4 EMC_DQM[1], P5 EMC_DQM[3], P12 EMC_BLS[3], P13 VSS_AD, P14 VSS_OSC, P15 VDD_PLLUSB, P16 RTCX_IN, P17 RTCX_OUT, P18 VSS_RTCOSC, R1 EMC_A[13]/P1[13], R2 EMC_A[14]/P1[14], R3 EMC_DQM[0], R4 !EMC_WR, R5 !EMC_CAS, R6 !EMC_DYCS0, R7 EMC_D[1], R8 EMC_D[7], R9 EMC_D[17]/EMC_DQS1, R10 EMC_D[24]/P2[5], R11 !EMC_CS1, R12 EMC_BLS[2], R13 TS_XP, R14 PLL397_LOOP, R15 SYSX_OUT, R16 VSS_PLLUSB, R17 VDD_PLLHCLK, R18 VSS_PLLHCLK, T1 EMC_DQM[2], T2 !EMC_RAS, T3 EMC_CLK, T4 EMC_CLKIN, T5 EMC_D[2], T6 EMC_D[6], T7 EMC_D[11], T8 EMC_D[14], T9 EMC_D[20]/P2[1], T10 EMC_D[23]/P2[4], T11 EMC_D[27]/P2[8], T12 !EMC_CS2, T13 EMC_BLS[1], T14 ADIN1/TS_XM, T15 VSS_PLL397, T16 VDD_PLL397, T17 SYSX_IN, T18 VDD_OSC, U3 EMC_CKE0, U4 EMC_D[0], U5 EMC_D[3], U6 EMC_D[9], U7 EMC_D[12], U8 EMC_D[15], U9 EMC_D[19]/P2[0], U10 EMC_D[22]/P2[3], U11 EMC_D[26]/P2[7], U12 EMC_D[30]/P2[11], U13 !EMC_CS0, U14 EMC_BLS[0], U15 ADIN0/TS_YM, U16 TS_YP, V3 EMC_D[4], V4 EMC_D[5], V5 EMC_D[8], V6 EMC_D[10], V7 EMC_D[13], V8 EMC_D[16]/EMC_DQS0, V9 EMC_D[18]/!EMC_CLK, V10 EMC_D[21]/P2[2], V11 EMC_D[25]/P2[6], V12 EMC_D[28]/P2[9], V13 EMC_D[29]/P2[10], V14 EMC_D[31]/P2[12], V15 !EMC_CS3, V16 ADIN2/TS_AUX_IN

## LPC3240FET296
designator U?, comment 16/32-bit ARM microcontrollers; hardware floating-point coprocessor, USB On-The-Go, and EMC memory interface The LPC3220/30/40/50 embedded microcontrollers were designed for low power, high performance applications. NXP achieved their performance goals using a 90 nanometer process to implement an ARM926EJ-S CPU core with a vector floating point co-processor and a large set of standard peripherals including USB On-The-Go. The LPC3220/30/40/50 operates at CPU frequencies of up to 266 MHz. The NXP implementation uses a ARM926EJ-S CPU core with a Harvard architecture, 5-stage pipeline, and an integral Memory Management Unit (MMU). The MMU provides the virtual memory capabilities needed to support the multi-programming demands of modern operating systems. The ARM926EJ-S also has a hardware based set of DSP instruction extensions, which includes single cycle MAC operations, and hardware based native Jazelle Java Byte-code execution. The NXP implementation has a 32 kB instruction cache and a 32 kB data cache. For low power consumption, the LPC3220/30/40/50 takes advantage of NXP’s advanced technology development to optimize intrinsic power and uses software controlled architectural enhancements to optimize application based power management. The LPC3220/30/40/50 also includes 256 kB of on-chip static RAM, a NAND flash interface, an Ethernet MAC, an LCD controller that supports STN and TFT panels, and an external bus interface that supports SDR and DDR SDRAM as well as static devices. In addition, the LPC3220/30/40/50 includes a USB 2.0 full-speed interface, seven UARTs, two I2C-bus interfaces, two SPI/SSP ports, two I2S-bus interfaces, two single output PWMs, a motor control PWM, six general purpose timers with capture inputs and compare outputs, a Secure Digital (SD) interface, and a 10-bit Analog-to-Digital Converter (ADC) with a touch screen sense option.    AAL Eindhoven MK
ETHERNET: yes; LCD: no; SRAM: 256kB
footprint SOT1048-1
pins: A3 I2C2_SCL, A4 I2S1TX_CLK/MAT3[0], A5 I2C1_SCL, A6 MS_BS/MAT2[1], A7 MS_DIO1/MAT0[1], A8 MS_DIO0/MAT0[0], A9 SPI2_DATIO/MOSI1/LCDVD[20], A10 SPI2_DATIN/MISO1/LCDVD[21]/GPI_27, A11 GPIO_1, A12 GPIO_0, A13 GPO_21/U4_TX/LCDVD[3], A14 GPO_15/MCOA1/LCDFP, A15 GPO_7/LCDVD[2], A16 GPO_6/LCDVD[18], B2 GPO_20, B3 GPO_5, B4 I2S1TX_WS/CAP3[0], B5 P0[0]/I2S1RX_CLK, B6 I2C1_SDA, B7 MS_SCLK/MAT2[0], B8 MS_DIO2/MAT0[2], B9 SPI1_DATIO/MOSI0/MCI2, B10 SPI2_CLK/SCK1/LCDVD[23], B11 GPIO_4/SSEL1/LCDVD[22], B12 GPO_12/MCOA2/LCDLE, B13 GPO_13/MCOB1/LCDDCLK, B14 GPO_2/MAT1[0]/LCDVD[0], B15 GPI_19/U4_RX, B16 GPI_8/KEY_COL6/SPI2_BUSY/ENET_RX_DV, C1 !FLASH_RD, C2 GPO_19, C3 GPO_0/TST_CLK1, C4 USB_ATX_INT, C5 USB_SE0_VM/U5_TX, C6 TST_CLK2, C7 GPI_6/HSTIM_CAP/ENET_RXD2, C8 MS_DIO3/MAT0[3], C9 SPI1_CLK/SCK0, C10 SPI1_DATIN/MISO0/GPI_25/MCI1, C11 GPIO_3/KEY_ROW7/ENET_MDIO, C12 GPO_9/LCDVD[9], C13 GPO_8/LCDVD[8], C14 GPI_2/CAP2[0]/ENET_RXD3, C15 GPI_1/!SERVICE, C16 GPI_0/I2S1RX_SDA, C17 KEY_ROW4/ENET_TXD0, C18 KEY_ROW5/ENET_TXD1, D1 FLASH_RDY, D2 FLASH_ALE, D3 GPO_14, D4 GPO_1, D5 USB_DAT_VP/U5_RX, D6 USB_OE_TP, D7 P0[1]/I2S1RX_WS, D8 GPO_4, D9 GPIO_2/KEY_ROW6/ENET_MDC, D10 GPO_16/MCOB0/LCDENAB/LCDM, D11 GPO_18/MCOA0/LCDLP, D12 GPO_3/LCDVD[1], D13 GPI_7/CAP4[0]/MCABORT, D14 PWM_OUT1/LCDVD[16], D15 PWM_OUT2/INTSTAT/LCDVD[19], D16 KEY_ROW3/ENET_TX_EN, D17 KEY_COL2/ENET_RX_ER, D18 KEY_COL3/ENET_CRS, E1 FLASH_IO[3], E2 FLASH_IO[7], E3 !FLASH_CE, E4 I2C2_SDA, E5 USB_I2C_SCL, E6 USB_I2C_SDA, E7 I2S1TX_SDA/MAT3[1], E8 GPO_11, E9 GPIO_5/SSEL0/MCI0, E10 GPO_22/U7_HRTS/LCDVD[14], E11 GPO_10/MCOB2/LCDPWR, E12 GPI_9/KEY_COL7/ENET_COL, E13 GPI_4/SPI1_BUSY, E14 KEY_ROW1/ENET_TXD2, E15 KEY_ROW0/ENET_TX_ER, E16 KEY_COL1/ENET_RX_CLK/ENET_REF_CLK, E17 U7_RX/CAP0[0]/LCDVD[10]/GPI_23, E18 U7_TX/MAT1[1]/LCDVD[11], F1 FLASH_IO[2], F2 !FLASH_WR, F3 FLASH_CLE, F4 GPI_3, F5 G5 H5 VSS_IOC, F6 VSS_IOB, F7 G6 H6 J5 VDD_IOC, F8 VDD_IOB, F9 F13 VDD_IOD, F10 F11 F12 H12 VSS_IOD, F14 KEY_ROW2/ENET_TXD3, F15 KEY_COL0/ENET_TX_CLK, F16 KEY_COL5/ENET_RXD1, F17 U6_IRRX/GPI_21, F18 U5_RX/GPI_20, G1 !EMC_DYCS1, G2 FLASH_IO[5], G3 FLASH_IO[6], G4 !RESOUT, G7 G9 G11 J7 J12 M7 M11 VDD_CORE, G8 G10 G12 H7 K12 L7 M9 M10 M12 VSS_CORE, G13 U7_HCTS/CAP0[1]/LCDCLKIN/GPI_22, G14 DBGEN, G15 KEY_COL4/ENET_RXD0, G16 U6_IRTX, G17 SYSCLKEN/LCDVD[15], G18 JTAG_TMS, H1 !EMC_OE, H2 FLASH_IO[0], H3 FLASH_IO[1], H4 FLASH_IO[4], H13 J13 VDD_IOA, H14 JTAG_TCK, H15 U5_TX, H16 HIGHCORE/LCDVD[17], H17 JTAG_NTRST, H18 JTAG_RTCK, J1 EMC_A[20]/P1[20], J2 EMC_A[21]/P1[21], J3 EMC_A[22]/P1[22], J4 EMC_A[23]/P1[23], J6 K6 K7 L6 M6 M8 N7 N8 N9 N10 N11 VDD_EMC, J14 U3_RX/GPI_18, J15 JTAG_TDO, J16 JTAG_TDI, J17 U3_TX, J18 U2_HCTS/U3_CTS/GPI_16, K1 EMC_A[19]/P1[19], K2 EMC_A[18]/P1[18], K3 EMC_A[16]/P1[16], K4 EMC_A[17]/P1[17], K5 L5 M5 N5 N6 P6 P7 P8 P9 P10 P11 VSS_EMC, K13 VSS_IOA, K14 VDD_RTC, K15 U1_RX/CAP1[0]/GPI_15, K16 U1_TX, K17 U2_TX/U3_DTR, K18 U2_RX/U3_DSR/GPI_17, L1 EMC_A[15]/P1[15], L2 EMC_CKE1, L3 EMC_A[0]/P1[0], L4 EMC_A[1]/P1[1], L12 M13 VDD_COREFXD, L13 VDD_RTCCORE, L14 VSS_RTCCORE, L15 P0[4]/I2S0RX_WS/LCDVD[6], L16 P0[5]/I2S0TX_SDA/LCDVD[7], L17 P0[6]/I2S0TX_CLK/LCDVD[12], L18 P0[7]/I2S0TX_WS/LCDVD[13], M1 EMC_A[2]/P1[2], M2 EMC_A[3]/P1[3], M3 EMC_A[4]/P1[4], M4 EMC_A[8]/P1[8], M14 !RESET, M15 ONSW, M16 GPO_23/U2_HRTS/U3_RTS, M17 P0[2]/I2S0RX_SDA/LCDVD[4], M18 P0[3]/I2S0RX_CLK/LCDVD[5], N1 EMC_A[5]/P1[5], N2 EMC_A[6]/P1[6], N3 EMC_A[7/P1[7], N4 EMC_A[12]/P1[12], N12 N13 VDD_AD, N14 VDD_FUSE, N15 VDD_RTCOSC, N16 GPI_5/U3_DCD, N17 GPI_28/U3_RI, N18 GPO_17, P1 EMC_A[9]/P1[9], P2 EMC_A[10]/P1[10], P3 EMC_A[11]/P1[11], P4 EMC_DQM[1], P5 EMC_DQM[3], P12 EMC_BLS[3], P13 VSS_AD, P14 VSS_OSC, P15 VDD_PLLUSB, P16 RTCX_IN, P17 RTCX_OUT, P18 VSS_RTCOSC, R1 EMC_A[13]/P1[13], R2 EMC_A[14]/P1[14], R3 EMC_DQM[0], R4 !EMC_WR, R5 !EMC_CAS, R6 !EMC_DYCS0, R7 EMC_D[1], R8 EMC_D[7], R9 EMC_D[17]/EMC_DQS1, R10 EMC_D[24]/P2[5], R11 !EMC_CS1, R12 EMC_BLS[2], R13 TS_XP, R14 PLL397_LOOP, R15 SYSX_OUT, R16 VSS_PLLUSB, R17 VDD_PLLHCLK, R18 VSS_PLLHCLK, T1 EMC_DQM[2], T2 !EMC_RAS, T3 EMC_CLK, T4 EMC_CLKIN, T5 EMC_D[2], T6 EMC_D[6], T7 EMC_D[11], T8 EMC_D[14], T9 EMC_D[20]/P2[1], T10 EMC_D[23]/P2[4], T11 EMC_D[27]/P2[8], T12 !EMC_CS2, T13 EMC_BLS[1], T14 ADIN1/TS_XM, T15 VSS_PLL397, T16 VDD_PLL397, T17 SYSX_IN, T18 VDD_OSC, U3 EMC_CKE0, U4 EMC_D[0], U5 EMC_D[3], U6 EMC_D[9], U7 EMC_D[12], U8 EMC_D[15], U9 EMC_D[19]/P2[0], U10 EMC_D[22]/P2[3], U11 EMC_D[26]/P2[7], U12 EMC_D[30]/P2[11], U13 !EMC_CS0, U14 EMC_BLS[0], U15 ADIN0/TS_YM, U16 TS_YP, V3 EMC_D[4], V4 EMC_D[5], V5 EMC_D[8], V6 EMC_D[10], V7 EMC_D[13], V8 EMC_D[16]/EMC_DQS0, V9 EMC_D[18]/!EMC_CLK, V10 EMC_D[21]/P2[2], V11 EMC_D[25]/P2[6], V12 EMC_D[28]/P2[9], V13 EMC_D[29]/P2[10], V14 EMC_D[31]/P2[12], V15 !EMC_CS3, V16 ADIN2/TS_AUX_IN

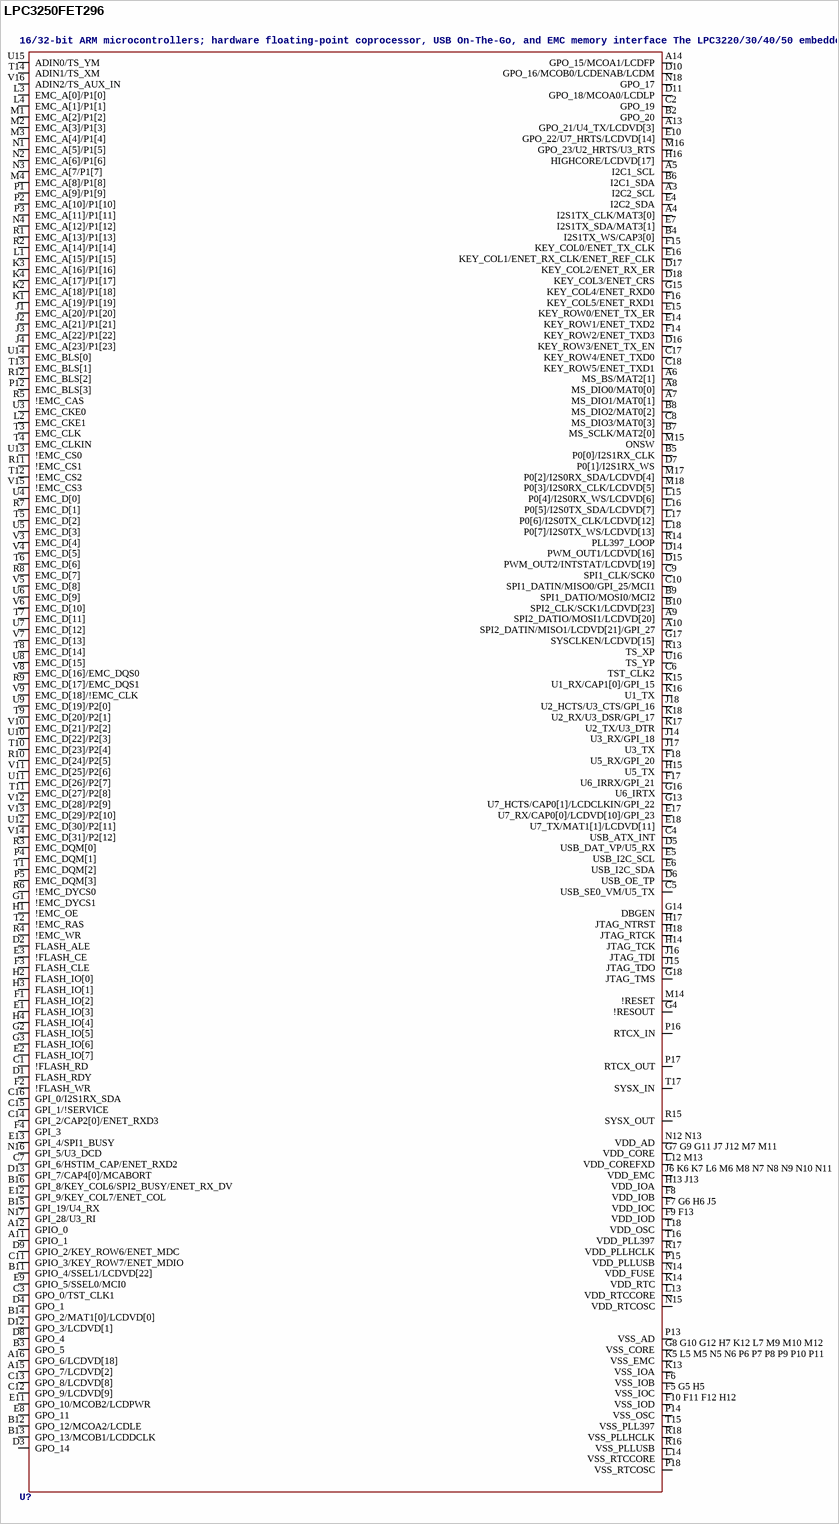
[diagram p117: symbol LPC3250FET296]

## LPC3250FET296
designator U?, comment 16/32-bit ARM microcontrollers; hardware floating-point coprocessor, USB On-The-Go, and EMC memory interface The LPC3220/30/40/50 embedded microcontrollers were designed for low power, high performance applications. NXP achieved their performance goals using a 90 nanometer process to implement an ARM926EJ-S CPU core with a vector floating point co-processor and a large set of standard peripherals including USB On-The-Go. The LPC3220/30/40/50 operates at CPU frequencies of up to 266 MHz. The NXP implementation uses a ARM926EJ-S CPU core with a Harvard architecture, 5-stage pipeline, and an integral Memory Management Unit (MMU). The MMU provides the virtual memory capabilities needed to support the multi-programming demands of modern operating systems. The ARM926EJ-S also has a hardware based set of DSP instruction extensions, which includes single cycle MAC operations, and hardware based native Jazelle Java Byte-code execution. The NXP implementation has a 32 kB instruction cache and a 32 kB data cache. For low power consumption, the LPC3220/30/40/50 takes advantage of NXP’s advanced technology development to optimize intrinsic power and uses software controlled architectural enhancements to optimize application based power management. The LPC3220/30/40/50 also includes 256 kB of on-chip static RAM, a NAND flash interface, an Ethernet MAC, an LCD controller that supports STN and TFT panels, and an external bus interface that supports SDR and DDR SDRAM as well as static devices. In addition, the LPC3220/30/40/50 includes a USB 2.0 full-speed interface, seven UARTs, two I2C-bus interfaces, two SPI/SSP ports, two I2S-bus interfaces, two single output PWMs, a motor control PWM, six general purpose timers with capture inputs and compare outputs, a Secure Digital (SD) interface, and a 10-bit Analog-to-Digital Converter (ADC) with a touch screen sense option.    AAL Eindhoven MK
ETHERNET: yes; SRAM: 256kB; LCD: yes
footprint SOT1048-1
pins: A3 I2C2_SCL, A4 I2S1TX_CLK/MAT3[0], A5 I2C1_SCL, A6 MS_BS/MAT2[1], A7 MS_DIO1/MAT0[1], A8 MS_DIO0/MAT0[0], A9 SPI2_DATIO/MOSI1/LCDVD[20], A10 SPI2_DATIN/MISO1/LCDVD[21]/GPI_27, A11 GPIO_1, A12 GPIO_0, A13 GPO_21/U4_TX/LCDVD[3], A14 GPO_15/MCOA1/LCDFP, A15 GPO_7/LCDVD[2], A16 GPO_6/LCDVD[18], B2 GPO_20, B3 GPO_5, B4 I2S1TX_WS/CAP3[0], B5 P0[0]/I2S1RX_CLK, B6 I2C1_SDA, B7 MS_SCLK/MAT2[0], B8 MS_DIO2/MAT0[2], B9 SPI1_DATIO/MOSI0/MCI2, B10 SPI2_CLK/SCK1/LCDVD[23], B11 GPIO_4/SSEL1/LCDVD[22], B12 GPO_12/MCOA2/LCDLE, B13 GPO_13/MCOB1/LCDDCLK, B14 GPO_2/MAT1[0]/LCDVD[0], B15 GPI_19/U4_RX, B16 GPI_8/KEY_COL6/SPI2_BUSY/ENET_RX_DV, C1 !FLASH_RD, C2 GPO_19, C3 GPO_0/TST_CLK1, C4 USB_ATX_INT, C5 USB_SE0_VM/U5_TX, C6 TST_CLK2, C7 GPI_6/HSTIM_CAP/ENET_RXD2, C8 MS_DIO3/MAT0[3], C9 SPI1_CLK/SCK0, C10 SPI1_DATIN/MISO0/GPI_25/MCI1, C11 GPIO_3/KEY_ROW7/ENET_MDIO, C12 GPO_9/LCDVD[9], C13 GPO_8/LCDVD[8], C14 GPI_2/CAP2[0]/ENET_RXD3, C15 GPI_1/!SERVICE, C16 GPI_0/I2S1RX_SDA, C17 KEY_ROW4/ENET_TXD0, C18 KEY_ROW5/ENET_TXD1, D1 FLASH_RDY, D2 FLASH_ALE, D3 GPO_14, D4 GPO_1, D5 USB_DAT_VP/U5_RX, D6 USB_OE_TP, D7 P0[1]/I2S1RX_WS, D8 GPO_4, D9 GPIO_2/KEY_ROW6/ENET_MDC, D10 GPO_16/MCOB0/LCDENAB/LCDM, D11 GPO_18/MCOA0/LCDLP, D12 GPO_3/LCDVD[1], D13 GPI_7/CAP4[0]/MCABORT, D14 PWM_OUT1/LCDVD[16], D15 PWM_OUT2/INTSTAT/LCDVD[19], D16 KEY_ROW3/ENET_TX_EN, D17 KEY_COL2/ENET_RX_ER, D18 KEY_COL3/ENET_CRS, E1 FLASH_IO[3], E2 FLASH_IO[7], E3 !FLASH_CE, E4 I2C2_SDA, E5 USB_I2C_SCL, E6 USB_I2C_SDA, E7 I2S1TX_SDA/MAT3[1], E8 GPO_11, E9 GPIO_5/SSEL0/MCI0, E10 GPO_22/U7_HRTS/LCDVD[14], E11 GPO_10/MCOB2/LCDPWR, E12 GPI_9/KEY_COL7/ENET_COL, E13 GPI_4/SPI1_BUSY, E14 KEY_ROW1/ENET_TXD2, E15 KEY_ROW0/ENET_TX_ER, E16 KEY_COL1/ENET_RX_CLK/ENET_REF_CLK, E17 U7_RX/CAP0[0]/LCDVD[10]/GPI_23, E18 U7_TX/MAT1[1]/LCDVD[11], F1 FLASH_IO[2], F2 !FLASH_WR, F3 FLASH_CLE, F4 GPI_3, F5 G5 H5 VSS_IOC, F6 VSS_IOB, F7 G6 H6 J5 VDD_IOC, F8 VDD_IOB, F9 F13 VDD_IOD, F10 F11 F12 H12 VSS_IOD, F14 KEY_ROW2/ENET_TXD3, F15 KEY_COL0/ENET_TX_CLK, F16 KEY_COL5/ENET_RXD1, F17 U6_IRRX/GPI_21, F18 U5_RX/GPI_20, G1 !EMC_DYCS1, G2 FLASH_IO[5], G3 FLASH_IO[6], G4 !RESOUT, G7 G9 G11 J7 J12 M7 M11 VDD_CORE, G8 G10 G12 H7 K12 L7 M9 M10 M12 VSS_CORE, G13 U7_HCTS/CAP0[1]/LCDCLKIN/GPI_22, G14 DBGEN, G15 KEY_COL4/ENET_RXD0, G16 U6_IRTX, G17 SYSCLKEN/LCDVD[15], G18 JTAG_TMS, H1 !EMC_OE, H2 FLASH_IO[0], H3 FLASH_IO[1], H4 FLASH_IO[4], H13 J13 VDD_IOA, H14 JTAG_TCK, H15 U5_TX, H16 HIGHCORE/LCDVD[17], H17 JTAG_NTRST, H18 JTAG_RTCK, J1 EMC_A[20]/P1[20], J2 EMC_A[21]/P1[21], J3 EMC_A[22]/P1[22], J4 EMC_A[23]/P1[23], J6 K6 K7 L6 M6 M8 N7 N8 N9 N10 N11 VDD_EMC, J14 U3_RX/GPI_18, J15 JTAG_TDO, J16 JTAG_TDI, J17 U3_TX, J18 U2_HCTS/U3_CTS/GPI_16, K1 EMC_A[19]/P1[19], K2 EMC_A[18]/P1[18], K3 EMC_A[16]/P1[16], K4 EMC_A[17]/P1[17], K5 L5 M5 N5 N6 P6 P7 P8 P9 P10 P11 VSS_EMC, K13 VSS_IOA, K14 VDD_RTC, K15 U1_RX/CAP1[0]/GPI_15, K16 U1_TX, K17 U2_TX/U3_DTR, K18 U2_RX/U3_DSR/GPI_17, L1 EMC_A[15]/P1[15], L2 EMC_CKE1, L3 EMC_A[0]/P1[0], L4 EMC_A[1]/P1[1], L12 M13 VDD_COREFXD, L13 VDD_RTCCORE, L14 VSS_RTCCORE, L15 P0[4]/I2S0RX_WS/LCDVD[6], L16 P0[5]/I2S0TX_SDA/LCDVD[7], L17 P0[6]/I2S0TX_CLK/LCDVD[12], L18 P0[7]/I2S0TX_WS/LCDVD[13], M1 EMC_A[2]/P1[2], M2 EMC_A[3]/P1[3], M3 EMC_A[4]/P1[4], M4 EMC_A[8]/P1[8], M14 !RESET, M15 ONSW, M16 GPO_23/U2_HRTS/U3_RTS, M17 P0[2]/I2S0RX_SDA/LCDVD[4], M18 P0[3]/I2S0RX_CLK/LCDVD[5], N1 EMC_A[5]/P1[5], N2 EMC_A[6]/P1[6], N3 EMC_A[7/P1[7], N4 EMC_A[12]/P1[12], N12 N13 VDD_AD, N14 VDD_FUSE, N15 VDD_RTCOSC, N16 GPI_5/U3_DCD, N17 GPI_28/U3_RI, N18 GPO_17, P1 EMC_A[9]/P1[9], P2 EMC_A[10]/P1[10], P3 EMC_A[11]/P1[11], P4 EMC_DQM[1], P5 EMC_DQM[3], P12 EMC_BLS[3], P13 VSS_AD, P14 VSS_OSC, P15 VDD_PLLUSB, P16 RTCX_IN, P17 RTCX_OUT, P18 VSS_RTCOSC, R1 EMC_A[13]/P1[13], R2 EMC_A[14]/P1[14], R3 EMC_DQM[0], R4 !EMC_WR, R5 !EMC_CAS, R6 !EMC_DYCS0, R7 EMC_D[1], R8 EMC_D[7], R9 EMC_D[17]/EMC_DQS1, R10 EMC_D[24]/P2[5], R11 !EMC_CS1, R12 EMC_BLS[2], R13 TS_XP, R14 PLL397_LOOP, R15 SYSX_OUT, R16 VSS_PLLUSB, R17 VDD_PLLHCLK, R18 VSS_PLLHCLK, T1 EMC_DQM[2], T2 !EMC_RAS, T3 EMC_CLK, T4 EMC_CLKIN, T5 EMC_D[2], T6 EMC_D[6], T7 EMC_D[11], T8 EMC_D[14], T9 EMC_D[20]/P2[1], T10 EMC_D[23]/P2[4], T11 EMC_D[27]/P2[8], T12 !EMC_CS2, T13 EMC_BLS[1], T14 ADIN1/TS_XM, T15 VSS_PLL397, T16 VDD_PLL397, T17 SYSX_IN, T18 VDD_OSC, U3 EMC_CKE0, U4 EMC_D[0], U5 EMC_D[3], U6 EMC_D[9], U7 EMC_D[12], U8 EMC_D[15], U9 EMC_D[19]/P2[0], U10 EMC_D[22]/P2[3], U11 EMC_D[26]/P2[7], U12 EMC_D[30]/P2[11], U13 !EMC_CS0, U14 EMC_BLS[0], U15 ADIN0/TS_YM, U16 TS_YP, V3 EMC_D[4], V4 EMC_D[5], V5 EMC_D[8], V6 EMC_D[10], V7 EMC_D[13], V8 EMC_D[16]/EMC_DQS0, V9 EMC_D[18]/!EMC_CLK, V10 EMC_D[21]/P2[2], V11 EMC_D[25]/P2[6], V12 EMC_D[28]/P2[9], V13 EMC_D[29]/P2[10], V14 EMC_D[31]/P2[12], V15 !EMC_CS3, V16 ADIN2/TS_AUX_IN

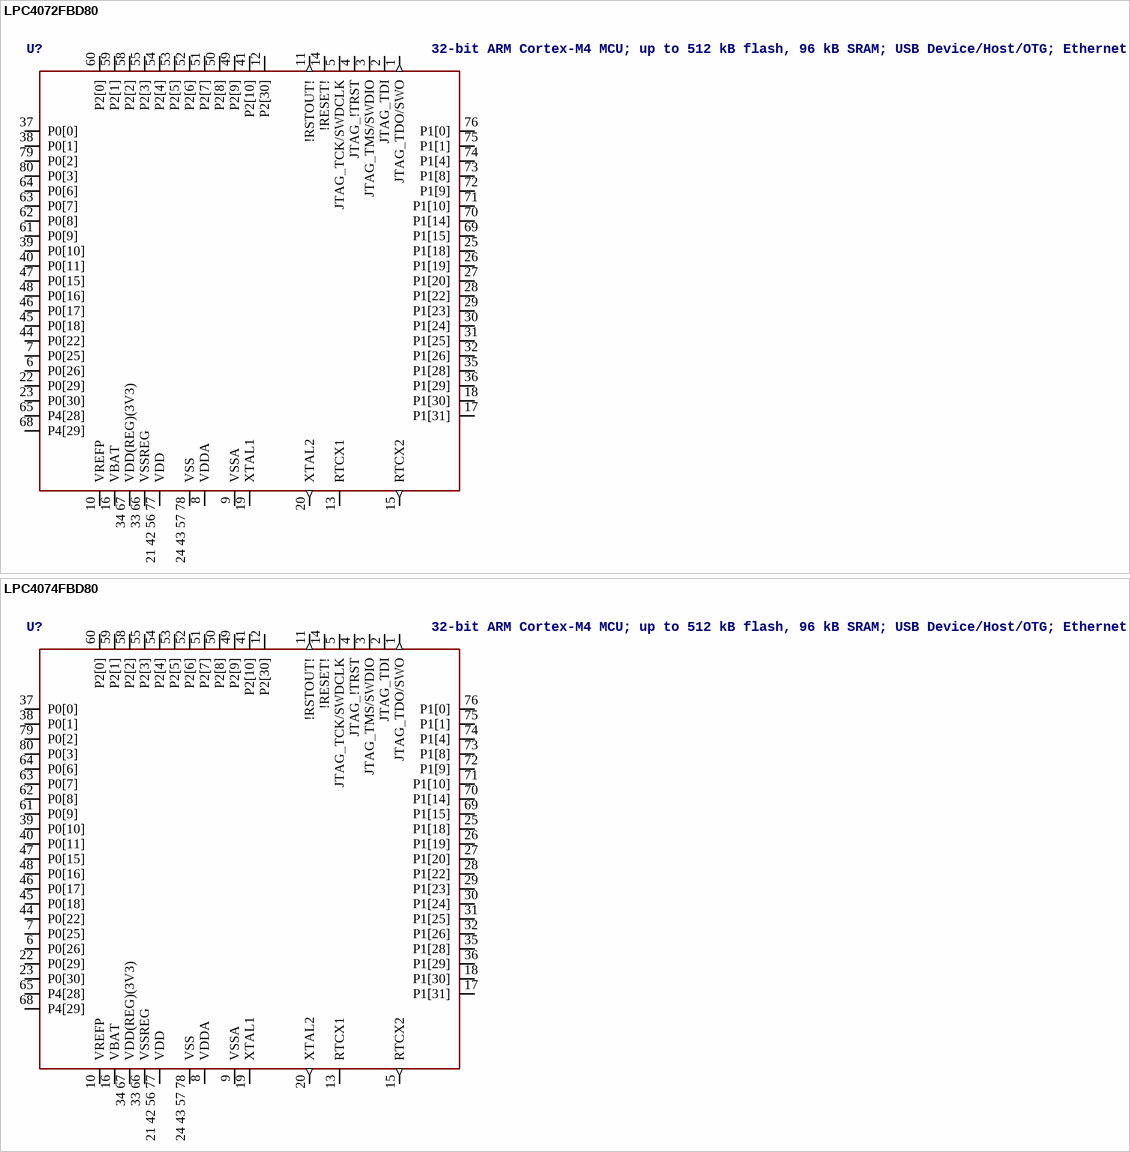
[diagram p118: symbols LPC4072FBD80 to LPC4074FBD80]

## LPC4072FBD80
designator U?, comment 32-bit ARM Cortex-M4 MCU; up to 512 kB flash, 96 kB SRAM; USB Device/Host/OTG; Ethernet; LCD; EMC; SPIFI The LPC408x/7x is an ARM Cortex-M4 based digital signal controller for embedded applications requiring a high level of integration and low power dissipation. The ARM Cortex-M4 is a next generation core that offers system enhancements such as low power consumption, enhanced debug features, and a high level of support block integration. The ARM Cortex-M4 CPU incorporates a 3-stage pipeline, uses a Harvard architecture with separate local instruction and data buses as well as a third bus for peripherals, and includes an internal prefetch unit that supports speculative branching. The ARM Cortex-M4 supports single-cycle digital signal processing and SIMD instructions. A hardware floating-point processor is integrated in the core for several versions of the part. The LPC408x/7x adds a specialized flash memory accelerator to accomplish optimal performance when executing code from flash. The LPC408x/7x is targeted to operate at up to 120 MHz CPU frequency. The peripheral complement of the LPC408x/7x includes up to 512 kB of flash program memory, up to 96 kB of SRAM data memory, up to 4032 byte of EEPROM data memory, External Memory controller (EMC), LCD, Ethernet, USB Device/Host/OTG, an SPI Flash Interface (SPIFI), a General Purpose DMA controller, five UARTs, three SSP controllers, three I 2 C-bus interfaces, a Quadrature Encoder Interface, four general purpose timers, two general purpose PWMs with six outputs each and one motor control PWM, an ultra-low power RTC with separate battery supply and event recorder, a windowed watchdog timer, a CRC calculation engine and up to 165 general purpose I/O pins. The analog peripherals include one eight-channel 12-bit ADC, two analog comparators, and a DAC. The pinout of LPC408x/7x is intended to allow pin function compatibility with the LPC24xx/23xx as well as the LPC178x/7x families.    AAL Eindhoven MK
footprint SOT315-1
pins: 1 JTAG_TDO/SWO (out), 2 JTAG_TDI, 3 JTAG_TMS/SWDIO, 4 JTAG_!TRST, 5 JTAG_TCK/SWDCLK, 6 P0[26], 7 P0[25], 8 VDDA (power), 9 VSSA (power), 10 VREFP (power), 11 !RSTOUT! (out), 12 P2[30], 13 RTCX1, 14 !RESET!, 15 RTCX2 (out), 16 VBAT (power), 17 P1[31], 18 P1[30], 19 XTAL1, 20 XTAL2 (out), 21 42 56 77 VDD (power), 22 P0[29], 23 P0[30], 24 43 57 78 VSS (power), 25 P1[18], 26 P1[19], 27 P1[20], 28 P1[22], 29 P1[23], 30 P1[24], 31 P1[25], 32 P1[26], 33 66 VSSREG (power), 34 67 VDD(REG)(3V3) (power), 35 P1[28], 36 P1[29], 37 P0[0], 38 P0[1], 39 P0[10], 40 P0[11], 41 P2[10], 44 P0[22], 45 P0[18], 46 P0[17], 47 P0[15], 48 P0[16], 49 P2[9], 50 P2[8], 51 P2[7], 52 P2[6], 53 P2[5], 54 P2[4], 55 P2[3], 58 P2[2], 59 P2[1], 60 P2[0], 61 P0[9], 62 P0[8], 63 P0[7], 64 P0[6], 65 P4[28], 68 P4[29], 69 P1[15], 70 P1[14], 71 P1[10], 72 P1[9], 73 P1[8], 74 P1[4], 75 P1[1], 76 P1[0], 79 P0[2], 80 P0[3]

## LPC4074FBD80
designator U?, comment 32-bit ARM Cortex-M4 MCU; up to 512 kB flash, 96 kB SRAM; USB Device/Host/OTG; Ethernet; LCD; EMC; SPIFI The LPC408x/7x is an ARM Cortex-M4 based digital signal controller for embedded applications requiring a high level of integration and low power dissipation. The ARM Cortex-M4 is a next generation core that offers system enhancements such as low power consumption, enhanced debug features, and a high level of support block integration. The ARM Cortex-M4 CPU incorporates a 3-stage pipeline, uses a Harvard architecture with separate local instruction and data buses as well as a third bus for peripherals, and includes an internal prefetch unit that supports speculative branching. The ARM Cortex-M4 supports single-cycle digital signal processing and SIMD instructions. A hardware floating-point processor is integrated in the core for several versions of the part. The LPC408x/7x adds a specialized flash memory accelerator to accomplish optimal performance when executing code from flash. The LPC408x/7x is targeted to operate at up to 120 MHz CPU frequency. The peripheral complement of the LPC408x/7x includes up to 512 kB of flash program memory, up to 96 kB of SRAM data memory, up to 4032 byte of EEPROM data memory, External Memory controller (EMC), LCD, Ethernet, USB Device/Host/OTG, an SPI Flash Interface (SPIFI), a General Purpose DMA controller, five UARTs, three SSP controllers, three I 2 C-bus interfaces, a Quadrature Encoder Interface, four general purpose timers, two general purpose PWMs with six outputs each and one motor control PWM, an ultra-low power RTC with separate battery supply and event recorder, a windowed watchdog timer, a CRC calculation engine and up to 165 general purpose I/O pins. The analog peripherals include one eight-channel 12-bit ADC, two analog comparators, and a DAC. The pinout of LPC408x/7x is intended to allow pin function compatibility with the LPC24xx/23xx as well as the LPC178x/7x families.    AAL Eindhoven MK
footprint SOT315-1
pins: 1 JTAG_TDO/SWO (out), 2 JTAG_TDI, 3 JTAG_TMS/SWDIO, 4 JTAG_!TRST, 5 JTAG_TCK/SWDCLK, 6 P0[26], 7 P0[25], 8 VDDA (power), 9 VSSA (power), 10 VREFP (power), 11 !RSTOUT! (out), 12 P2[30], 13 RTCX1, 14 !RESET!, 15 RTCX2 (out), 16 VBAT (power), 17 P1[31], 18 P1[30], 19 XTAL1, 20 XTAL2 (out), 21 42 56 77 VDD (power), 22 P0[29], 23 P0[30], 24 43 57 78 VSS (power), 25 P1[18], 26 P1[19], 27 P1[20], 28 P1[22], 29 P1[23], 30 P1[24], 31 P1[25], 32 P1[26], 33 66 VSSREG (power), 34 67 VDD(REG)(3V3) (power), 35 P1[28], 36 P1[29], 37 P0[0], 38 P0[1], 39 P0[10], 40 P0[11], 41 P2[10], 44 P0[22], 45 P0[18], 46 P0[17], 47 P0[15], 48 P0[16], 49 P2[9], 50 P2[8], 51 P2[7], 52 P2[6], 53 P2[5], 54 P2[4], 55 P2[3], 58 P2[2], 59 P2[1], 60 P2[0], 61 P0[9], 62 P0[8], 63 P0[7], 64 P0[6], 65 P4[28], 68 P4[29], 69 P1[15], 70 P1[14], 71 P1[10], 72 P1[9], 73 P1[8], 74 P1[4], 75 P1[1], 76 P1[0], 79 P0[2], 80 P0[3]

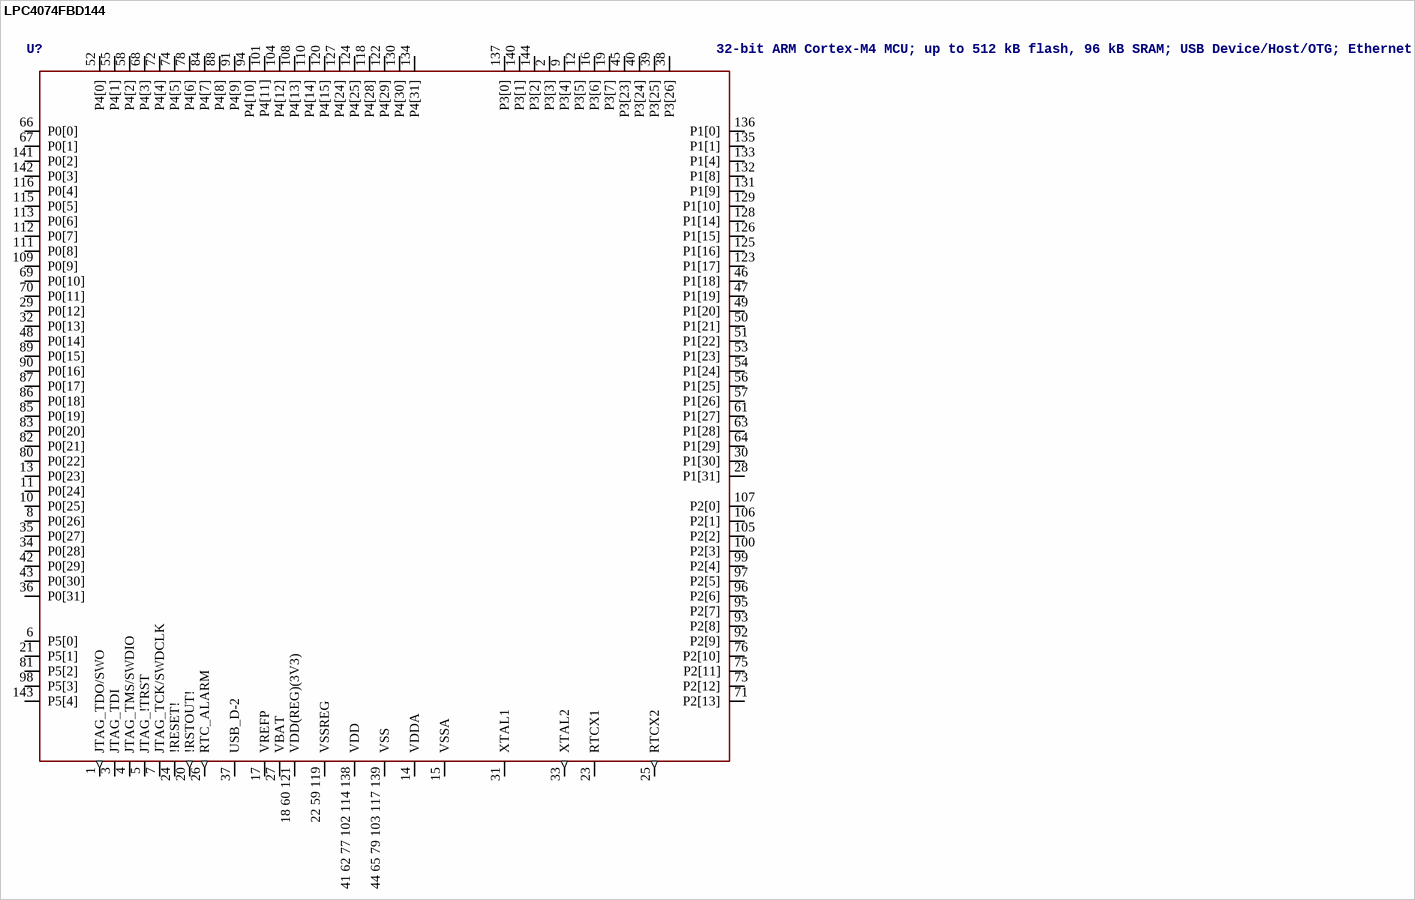
[diagram p119: symbol LPC4074FBD144]

## LPC4074FBD144
designator U?, comment 32-bit ARM Cortex-M4 MCU; up to 512 kB flash, 96 kB SRAM; USB Device/Host/OTG; Ethernet; LCD; EMC; SPIFI The LPC408x/7x is an ARM Cortex-M4 based digital signal controller for embedded applications requiring a high level of integration and low power dissipation. The ARM Cortex-M4 is a next generation core that offers system enhancements such as low power consumption, enhanced debug features, and a high level of support block integration. The ARM Cortex-M4 CPU incorporates a 3-stage pipeline, uses a Harvard architecture with separate local instruction and data buses as well as a third bus for peripherals, and includes an internal prefetch unit that supports speculative branching. The ARM Cortex-M4 supports single-cycle digital signal processing and SIMD instructions. A hardware floating-point processor is integrated in the core for several versions of the part. The LPC408x/7x adds a specialized flash memory accelerator to accomplish optimal performance when executing code from flash. The LPC408x/7x is targeted to operate at up to 120 MHz CPU frequency. The peripheral complement of the LPC408x/7x includes up to 512 kB of flash program memory, up to 96 kB of SRAM data memory, up to 4032 byte of EEPROM data memory, External Memory controller (EMC), LCD, Ethernet, USB Device/Host/OTG, an SPI Flash Interface (SPIFI), a General Purpose DMA controller, five UARTs, three SSP controllers, three I 2 C-bus interfaces, a Quadrature Encoder Interface, four general purpose timers, two general purpose PWMs with six outputs each and one motor control PWM, an ultra-low power RTC with separate battery supply and event recorder, a windowed watchdog timer, a CRC calculation engine and up to 165 general purpose I/O pins. The analog peripherals include one eight-channel 12-bit ADC, two analog comparators, and a DAC. The pinout of LPC408x/7x is intended to allow pin function compatibility with the LPC24xx/23xx as well as the LPC178x/7x families.    AAL Eindhoven MK
footprint SOT486-1
pins: 1 JTAG_TDO/SWO (out), 2 P3[3], 3 JTAG_TDI, 4 JTAG_TMS/SWDIO, 5 JTAG_!TRST, 6 P5[0], 7 JTAG_TCK/SWDCLK, 8 P0[26], 9 P3[4], 10 P0[25], 11 P0[24], 12 P3[5], 13 P0[23], 14 VDDA (power), 15 VSSA (power), 16 P3[6], 17 VREFP (power), 18 60 121 VDD(REG)(3V3) (power), 19 P3[7], 20 !RSTOUT! (out), 21 P5[1], 22 59 119 VSSREG (power), 23 RTCX1, 24 !RESET!, 25 RTCX2 (out), 26 RTC_ALARM (out), 27 VBAT (power), 28 P1[31], 29 P0[12], 30 P1[30], 31 XTAL1, 32 P0[13], 33 XTAL2 (out), 34 P0[28], 35 P0[27], 36 P0[31], 37 USB_D-2, 38 P3[26], 39 P3[25], 40 P3[24], 41 62 77 102 114 138 VDD (power), 42 P0[29], 43 P0[30], 44 65 79 103 117 139 VSS (power), 45 P3[23], 46 P1[18], 47 P1[19], 48 P0[14], 49 P1[20], 50 P1[21], 51 P1[22], 52 P4[0], 53 P1[23], 54 P1[24], 55 P4[1], 56 P1[25], 57 P1[26], 58 P4[2], 61 P1[27], 63 P1[28], 64 P1[29], 66 P0[0], 67 P0[1], 68 P4[3], 69 P0[10], 70 P0[11], 71 P2[13], 72 P4[4], 73 P2[12], 74 P4[5], 75 P2[11], 76 P2[10], 78 P4[6], 80 P0[22], 81 P5[2], 82 P0[21], 83 P0[20], 84 P4[7], 85 P0[19], 86 P0[18], 87 P0[17], 88 P4[8], 89 P0[15], 90 P0[16], 91 P4[9], 92 P2[9], 93 P2[8], 94 P4[10], 95 P2[7], 96 P2[6], 97 P2[5], 98 P5[3], 99 P2[4], 100 P2[3], 101 P4[11], 104 P4[12], 105 P2[2], 106 P2[1], 107 P2[0], 108 P4[13], 109 P0[9], 110 P4[14], 111 P0[8], 112 P0[7], 113 P0[6], 115 P0[5], 116 P0[4], 118 P4[28], 120 P4[15], 122 P4[29], 123 P1[17], 124 P4[25], 125 P1[16], 126 P1[15], 127 P4[24], 128 P1[14], 129 P1[10], 130 P4[30], 131 P1[9], 132 P1[8], 133 P1[4], 134 P4[31], 135 P1[1], 136 P1[0], 137 P3[0], 140 P3[1], 141 P0[2], 142 P0[3], 143 P5[4], 144 P3[2]

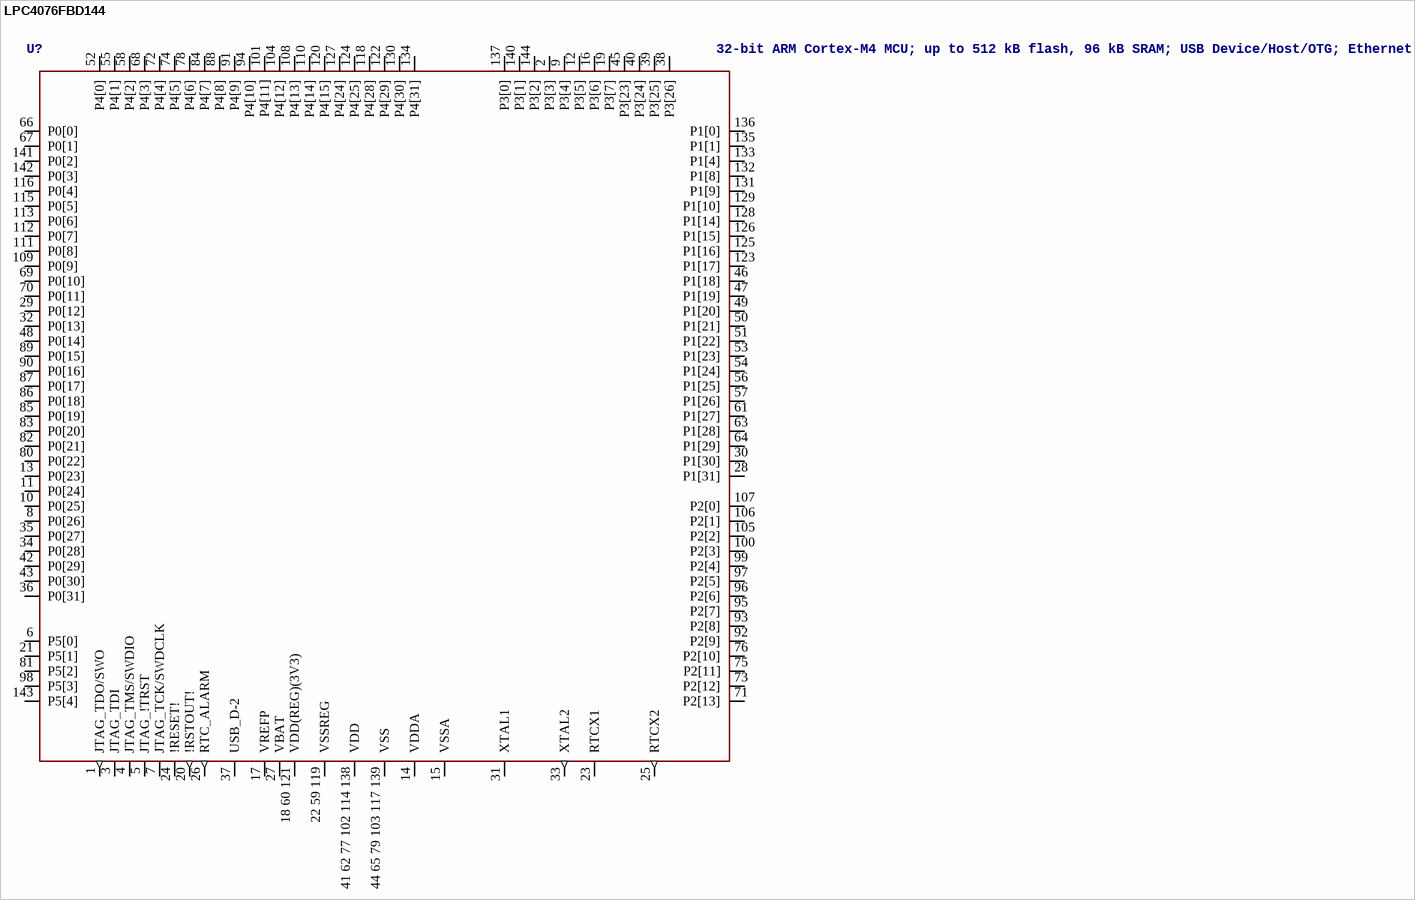
[diagram p120: symbol LPC4076FBD144]